# Altium integrated library Lattice CPLD ispMACH.IntLib: 663 symbols (part 28 of 48)
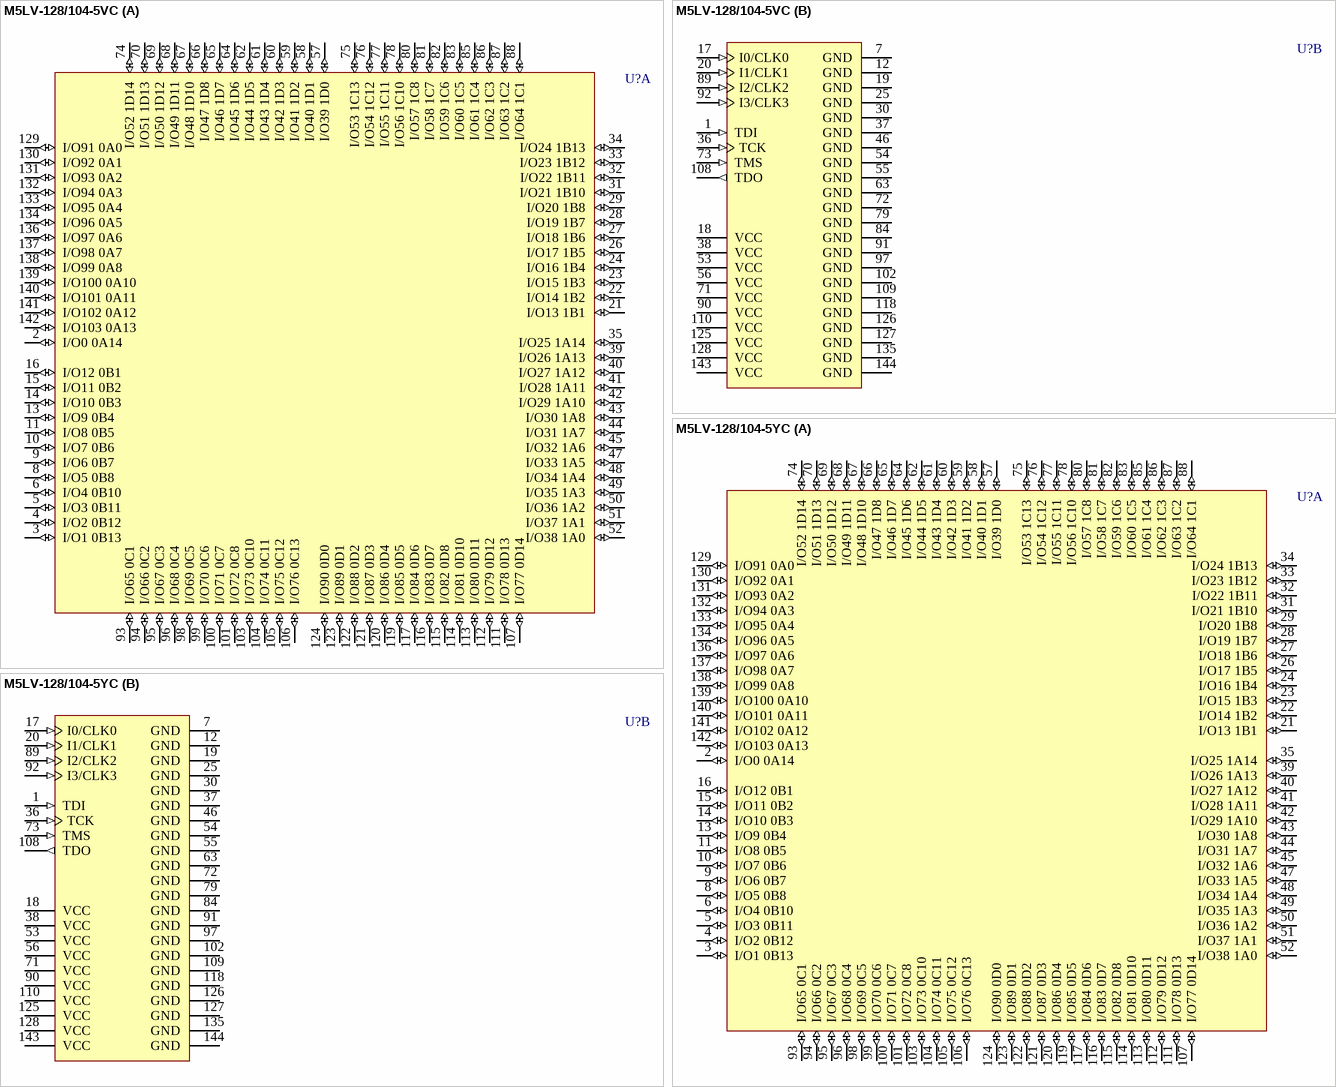
[diagram p333: symbols M5LV-128/104-5VC to M5LV-128/104-5YC]

## M5LV-128/104-5VC
designator U?
High-Density and High-I/O Complex PLD; Published: 23-Sep-2002; LatestRevisionDate: 13-Apr-2006; LatestRevisionNote: IPC-7351 Footprint Added.; DatasheetVersion: Sep-2000; PackageVersion: pkg_32, Aug-2005; PackageReference: TQFP144; Publisher: Altium Limited; PackageDescription: 144-Pin Thin Quad Flat Pack (TQFP144); Code_JEDEC: MS-026-BFB; ComponentLink1Description: Manufacturer Link; ComponentLink1URL: http://www.latticesemi.com/products/mature/index.cfm; ComponentLink2Description: Datasheet; ComponentLink2URL: http://www.latticesemi.com/lit/docs/datasheets/cpld/mach5.pdf
footprint TQFP144_N (Thin QFP, 144-Leads, Body 20x20mm, Pitch 0.5mm, IPC Medium Density)
footprint TQFP144_L (Thin QFP, 144-Leads, Body 20x20mm, Pitch 0.5mm, IPC High Density)
footprint TQFP144_M (Thin QFP, 144-Leads, Body 20x20mm, Pitch 0.5mm, IPC Low Density)
3D model M5LV-TQFP144 (144-Pin Thin Quad Flat Pack (TQFP144))
part A pins: 2 I/O0 0A14 (io), 3 I/O1 0B13 (io), 4 I/O2 0B12 (io), 5 I/O3 0B11 (io), 6 I/O4 0B10 (io), 8 I/O5 0B8 (io), 9 I/O6 0B7 (io), 10 I/O7 0B6 (io), 11 I/O8 0B5 (io), 13 I/O9 0B4 (io), 14 I/O10 0B3 (io), 15 I/O11 0B2 (io), 16 I/O12 0B1 (io), 21 I/O13 1B1 (io), 22 I/O14 1B2 (io), 23 I/O15 1B3 (io), 24 I/O16 1B4 (io), 26 I/O17 1B5 (io), 27 I/O18 1B6 (io), 28 I/O19 1B7 (io), 29 I/O20 1B8 (io), 31 I/O21 1B10 (io), 32 I/O22 1B11 (io), 33 I/O23 1B12 (io), 34 I/O24 1B13 (io), 35 I/O25 1A14 (io), 39 I/O26 1A13 (io), 40 I/O27 1A12 (io), 41 I/O28 1A11 (io), 42 I/O29 1A10 (io), 43 I/O30 1A8 (io), 44 I/O31 1A7 (io), 45 I/O32 1A6 (io), 47 I/O33 1A5 (io), 48 I/O34 1A4 (io), 49 I/O35 1A3 (io), 50 I/O36 1A2 (io), 51 I/O37 1A1 (io), 52 I/O38 1A0 (io), 57 I/O39 1D0 (io), 58 I/O40 1D1 (io), 59 I/O41 1D2 (io), 60 I/O42 1D3 (io), 61 I/O43 1D4 (io), 62 I/O44 1D5 (io), 64 I/O45 1D6 (io), 65 I/O46 1D7 (io), 66 I/O47 1D8 (io), 67 I/O48 1D10 (io), 68 I/O49 1D11 (io), 69 I/O50 1D12 (io), 70 I/O51 1D13 (io), 74 I/O52 1D14 (io), 75 I/O53 1C13 (io), 76 I/O54 1C12 (io), 77 I/O55 1C11 (io), 78 I/O56 1C10 (io), 80 I/O57 1C8 (io), 81 I/O58 1C7 (io), 82 I/O59 1C6 (io), 83 I/O60 1C5 (io), 85 I/O61 1C4 (io), 86 I/O62 1C3 (io), 87 I/O63 1C2 (io), 88 I/O64 1C1 (io), 93 I/O65 0C1 (io), 94 I/O66 0C2 (io), 95 I/O67 0C3 (io), 96 I/O68 0C4 (io), 98 I/O69 0C5 (io), 99 I/O70 0C6 (io), 100 I/O71 0C7 (io), 101 I/O72 0C8 (io), 103 I/O73 0C10 (io), 104 I/O74 0C11 (io), 105 I/O75 0C12 (io), 106 I/O76 0C13 (io), 107 I/O77 0D14 (io), 111 I/O78 0D13 (io), 112 I/O79 0D12 (io), 113 I/O80 0D11 (io), 114 I/O81 0D10 (io), 115 I/O82 0D8 (io), 116 I/O83 0D7 (io), 117 I/O84 0D6 (io), 119 I/O85 0D5 (io), 120 I/O86 0D4 (io), 121 I/O87 0D3 (io), 122 I/O88 0D2 (io), 123 I/O89 0D1 (io), 124 I/O90 0D0 (io), 129 I/O91 0A0 (io), 130 I/O92 0A1 (io), 131 I/O93 0A2 (io), 132 I/O94 0A3 (io), 133 I/O95 0A4 (io), 134 I/O96 0A5 (io), 136 I/O97 0A6 (io), 137 I/O98 0A7 (io), 138 I/O99 0A8 (io), 139 I/O100 0A10 (io), 140 I/O101 0A11 (io), 141 I/O102 0A12 (io), 142 I/O103 0A13 (io)
part B pins: 1 TDI (in), 7 GND (power), 12 GND (power), 17 I0/CLK0 (in), 18 VCC (power), 19 GND (power), 20 I1/CLK1 (in), 25 GND (power), 30 GND (power), 36 TCK (in), 37 GND (power), 38 VCC (power), 46 GND (power), 53 VCC (power), 54 GND (power), 55 GND (power), 56 VCC (power), 63 GND (power), 71 VCC (power), 72 GND (power), 73 TMS (in), 79 GND (power), 84 GND (power), 89 I2/CLK2 (in), 90 VCC (power), 91 GND (power), 92 I3/CLK3 (in), 97 GND (power), 102 GND (power), 108 TDO (out), 109 GND (power), 110 VCC (power), 118 GND (power), 125 VCC (power), 126 GND (power), 127 GND (power), 128 VCC (power), 135 GND (power), 143 VCC (power), 144 GND (power)

## M5LV-128/104-5YC
designator U?
High-Density and High-I/O Complex PLD; Published: 23-Sep-2002; LatestRevisionDate: 13-Apr-2006; LatestRevisionNote: IPC-7351 Footprint Added.; DatasheetVersion: Sep-2000; PackageVersion: pkg_32, Aug-2005; PackageReference: PQFP144; Publisher: Altium Limited; PackageDescription: 144-Pin Quad Flat Pack 0.65 mm Pitch; Code_IPC: QFP65P3120X3120-144; ComponentLink1Description: Manufacturer Link; ComponentLink1URL: http://www.latticesemi.com/products/mature/index.cfm; ComponentLink2Description: Datasheet; ComponentLink2URL: http://www.latticesemi.com/lit/docs/datasheets/cpld/mach5.pdf
footprint PQFP144_N (QFP, 144-Leads, Body 28 x 28mm, Pitch 0.65mm, IPC Medium Density)
footprint PQFP144_L (QFP, 144-Leads, Body 28 x 28mm, Pitch 0.65mm, IPC High Density)
footprint PQFP144_M (QFP, 144-Leads, Body 28 x 28mm, Pitch 0.65mm, IPC Low Density)
3D model M5LV-PQFP144 (144-Pin Quad Flat Pack 0.65 mm Pitch)
part A pins: 2 I/O0 0A14 (io), 3 I/O1 0B13 (io), 4 I/O2 0B12 (io), 5 I/O3 0B11 (io), 6 I/O4 0B10 (io), 8 I/O5 0B8 (io), 9 I/O6 0B7 (io), 10 I/O7 0B6 (io), 11 I/O8 0B5 (io), 13 I/O9 0B4 (io), 14 I/O10 0B3 (io), 15 I/O11 0B2 (io), 16 I/O12 0B1 (io), 21 I/O13 1B1 (io), 22 I/O14 1B2 (io), 23 I/O15 1B3 (io), 24 I/O16 1B4 (io), 26 I/O17 1B5 (io), 27 I/O18 1B6 (io), 28 I/O19 1B7 (io), 29 I/O20 1B8 (io), 31 I/O21 1B10 (io), 32 I/O22 1B11 (io), 33 I/O23 1B12 (io), 34 I/O24 1B13 (io), 35 I/O25 1A14 (io), 39 I/O26 1A13 (io), 40 I/O27 1A12 (io), 41 I/O28 1A11 (io), 42 I/O29 1A10 (io), 43 I/O30 1A8 (io), 44 I/O31 1A7 (io), 45 I/O32 1A6 (io), 47 I/O33 1A5 (io), 48 I/O34 1A4 (io), 49 I/O35 1A3 (io), 50 I/O36 1A2 (io), 51 I/O37 1A1 (io), 52 I/O38 1A0 (io), 57 I/O39 1D0 (io), 58 I/O40 1D1 (io), 59 I/O41 1D2 (io), 60 I/O42 1D3 (io), 61 I/O43 1D4 (io), 62 I/O44 1D5 (io), 64 I/O45 1D6 (io), 65 I/O46 1D7 (io), 66 I/O47 1D8 (io), 67 I/O48 1D10 (io), 68 I/O49 1D11 (io), 69 I/O50 1D12 (io), 70 I/O51 1D13 (io), 74 I/O52 1D14 (io), 75 I/O53 1C13 (io), 76 I/O54 1C12 (io), 77 I/O55 1C11 (io), 78 I/O56 1C10 (io), 80 I/O57 1C8 (io), 81 I/O58 1C7 (io), 82 I/O59 1C6 (io), 83 I/O60 1C5 (io), 85 I/O61 1C4 (io), 86 I/O62 1C3 (io), 87 I/O63 1C2 (io), 88 I/O64 1C1 (io), 93 I/O65 0C1 (io), 94 I/O66 0C2 (io), 95 I/O67 0C3 (io), 96 I/O68 0C4 (io), 98 I/O69 0C5 (io), 99 I/O70 0C6 (io), 100 I/O71 0C7 (io), 101 I/O72 0C8 (io), 103 I/O73 0C10 (io), 104 I/O74 0C11 (io), 105 I/O75 0C12 (io), 106 I/O76 0C13 (io), 107 I/O77 0D14 (io), 111 I/O78 0D13 (io), 112 I/O79 0D12 (io), 113 I/O80 0D11 (io), 114 I/O81 0D10 (io), 115 I/O82 0D8 (io), 116 I/O83 0D7 (io), 117 I/O84 0D6 (io), 119 I/O85 0D5 (io), 120 I/O86 0D4 (io), 121 I/O87 0D3 (io), 122 I/O88 0D2 (io), 123 I/O89 0D1 (io), 124 I/O90 0D0 (io), 129 I/O91 0A0 (io), 130 I/O92 0A1 (io), 131 I/O93 0A2 (io), 132 I/O94 0A3 (io), 133 I/O95 0A4 (io), 134 I/O96 0A5 (io), 136 I/O97 0A6 (io), 137 I/O98 0A7 (io), 138 I/O99 0A8 (io), 139 I/O100 0A10 (io), 140 I/O101 0A11 (io), 141 I/O102 0A12 (io), 142 I/O103 0A13 (io)
part B pins: 1 TDI (in), 7 GND (power), 12 GND (power), 17 I0/CLK0 (in), 18 VCC (power), 19 GND (power), 20 I1/CLK1 (in), 25 GND (power), 30 GND (power), 36 TCK (in), 37 GND (power), 38 VCC (power), 46 GND (power), 53 VCC (power), 54 GND (power), 55 GND (power), 56 VCC (power), 63 GND (power), 71 VCC (power), 72 GND (power), 73 TMS (in), 79 GND (power), 84 GND (power), 89 I2/CLK2 (in), 90 VCC (power), 91 GND (power), 92 I3/CLK3 (in), 97 GND (power), 102 GND (power), 108 TDO (out), 109 GND (power), 110 VCC (power), 118 GND (power), 125 VCC (power), 126 GND (power), 127 GND (power), 128 VCC (power), 135 GND (power), 143 VCC (power), 144 GND (power)

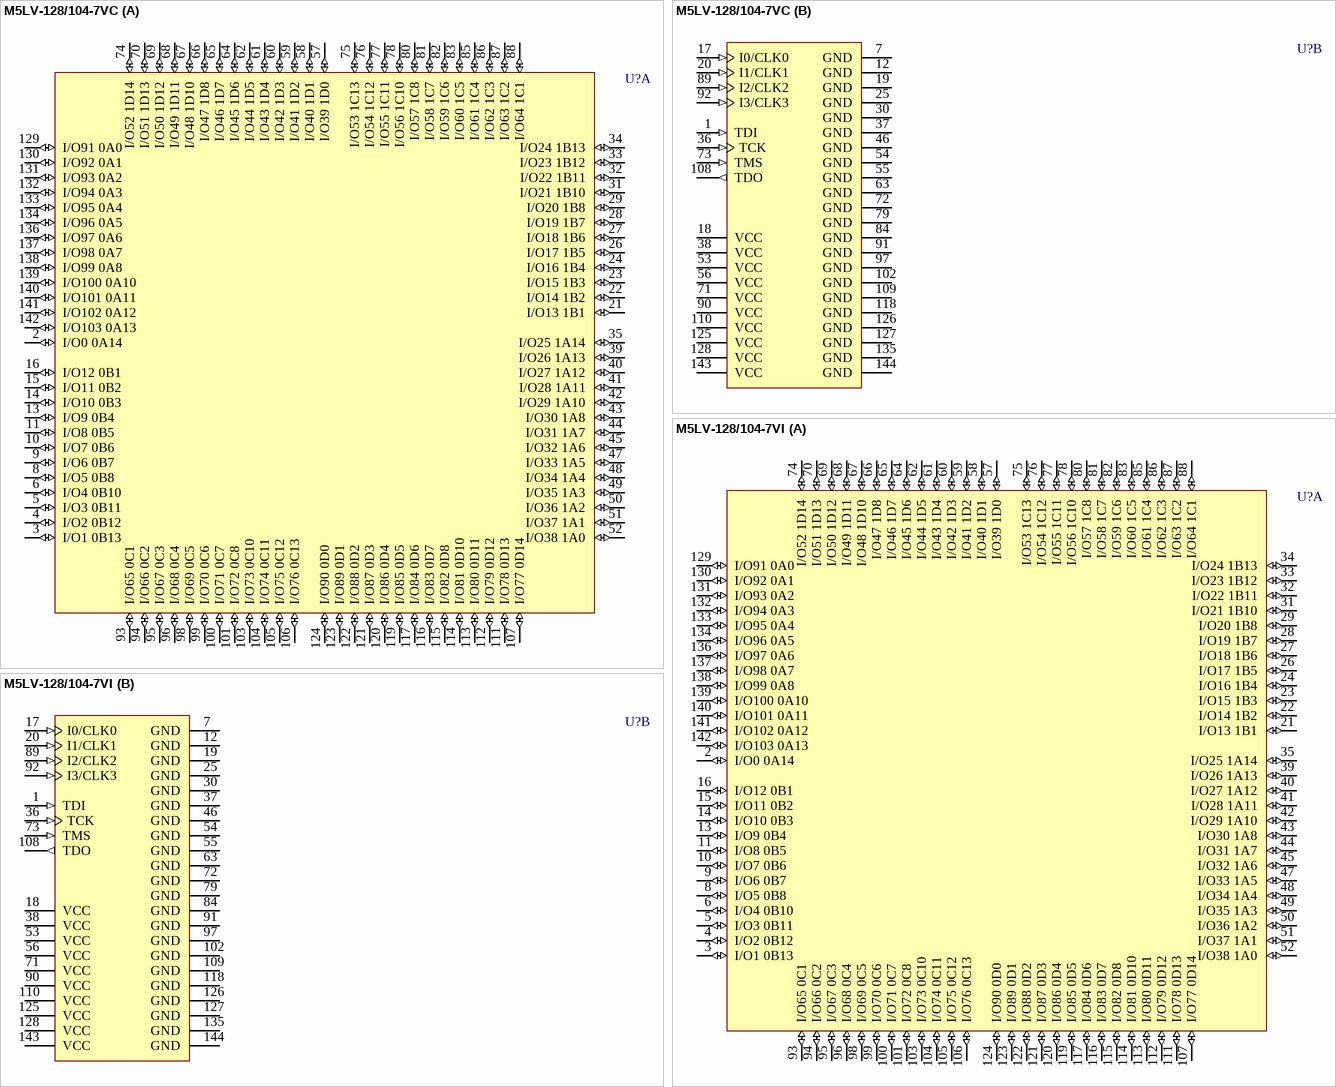
[diagram p162: symbols M5LV-128/104-7VC to M5LV-128/104-7VI]

## M5LV-128/104-7VC
designator U?
High-Density and High-I/O Complex PLD; Published: 23-Sep-2002; LatestRevisionDate: 13-Apr-2006; LatestRevisionNote: IPC-7351 Footprint Added.; DatasheetVersion: Sep-2000; PackageVersion: pkg_32, Aug-2005; PackageReference: TQFP144; Publisher: Altium Limited; PackageDescription: 144-Pin Thin Quad Flat Pack (TQFP144); Code_JEDEC: MS-026-BFB; ComponentLink1Description: Manufacturer Link; ComponentLink1URL: http://www.latticesemi.com/products/mature/index.cfm; ComponentLink2Description: Datasheet; ComponentLink2URL: http://www.latticesemi.com/lit/docs/datasheets/cpld/mach5.pdf
footprint TQFP144_N (Thin QFP, 144-Leads, Body 20x20mm, Pitch 0.5mm, IPC Medium Density)
footprint TQFP144_L (Thin QFP, 144-Leads, Body 20x20mm, Pitch 0.5mm, IPC High Density)
footprint TQFP144_M (Thin QFP, 144-Leads, Body 20x20mm, Pitch 0.5mm, IPC Low Density)
3D model M5LV-TQFP144 (144-Pin Thin Quad Flat Pack (TQFP144))
part A pins: 2 I/O0 0A14 (io), 3 I/O1 0B13 (io), 4 I/O2 0B12 (io), 5 I/O3 0B11 (io), 6 I/O4 0B10 (io), 8 I/O5 0B8 (io), 9 I/O6 0B7 (io), 10 I/O7 0B6 (io), 11 I/O8 0B5 (io), 13 I/O9 0B4 (io), 14 I/O10 0B3 (io), 15 I/O11 0B2 (io), 16 I/O12 0B1 (io), 21 I/O13 1B1 (io), 22 I/O14 1B2 (io), 23 I/O15 1B3 (io), 24 I/O16 1B4 (io), 26 I/O17 1B5 (io), 27 I/O18 1B6 (io), 28 I/O19 1B7 (io), 29 I/O20 1B8 (io), 31 I/O21 1B10 (io), 32 I/O22 1B11 (io), 33 I/O23 1B12 (io), 34 I/O24 1B13 (io), 35 I/O25 1A14 (io), 39 I/O26 1A13 (io), 40 I/O27 1A12 (io), 41 I/O28 1A11 (io), 42 I/O29 1A10 (io), 43 I/O30 1A8 (io), 44 I/O31 1A7 (io), 45 I/O32 1A6 (io), 47 I/O33 1A5 (io), 48 I/O34 1A4 (io), 49 I/O35 1A3 (io), 50 I/O36 1A2 (io), 51 I/O37 1A1 (io), 52 I/O38 1A0 (io), 57 I/O39 1D0 (io), 58 I/O40 1D1 (io), 59 I/O41 1D2 (io), 60 I/O42 1D3 (io), 61 I/O43 1D4 (io), 62 I/O44 1D5 (io), 64 I/O45 1D6 (io), 65 I/O46 1D7 (io), 66 I/O47 1D8 (io), 67 I/O48 1D10 (io), 68 I/O49 1D11 (io), 69 I/O50 1D12 (io), 70 I/O51 1D13 (io), 74 I/O52 1D14 (io), 75 I/O53 1C13 (io), 76 I/O54 1C12 (io), 77 I/O55 1C11 (io), 78 I/O56 1C10 (io), 80 I/O57 1C8 (io), 81 I/O58 1C7 (io), 82 I/O59 1C6 (io), 83 I/O60 1C5 (io), 85 I/O61 1C4 (io), 86 I/O62 1C3 (io), 87 I/O63 1C2 (io), 88 I/O64 1C1 (io), 93 I/O65 0C1 (io), 94 I/O66 0C2 (io), 95 I/O67 0C3 (io), 96 I/O68 0C4 (io), 98 I/O69 0C5 (io), 99 I/O70 0C6 (io), 100 I/O71 0C7 (io), 101 I/O72 0C8 (io), 103 I/O73 0C10 (io), 104 I/O74 0C11 (io), 105 I/O75 0C12 (io), 106 I/O76 0C13 (io), 107 I/O77 0D14 (io), 111 I/O78 0D13 (io), 112 I/O79 0D12 (io), 113 I/O80 0D11 (io), 114 I/O81 0D10 (io), 115 I/O82 0D8 (io), 116 I/O83 0D7 (io), 117 I/O84 0D6 (io), 119 I/O85 0D5 (io), 120 I/O86 0D4 (io), 121 I/O87 0D3 (io), 122 I/O88 0D2 (io), 123 I/O89 0D1 (io), 124 I/O90 0D0 (io), 129 I/O91 0A0 (io), 130 I/O92 0A1 (io), 131 I/O93 0A2 (io), 132 I/O94 0A3 (io), 133 I/O95 0A4 (io), 134 I/O96 0A5 (io), 136 I/O97 0A6 (io), 137 I/O98 0A7 (io), 138 I/O99 0A8 (io), 139 I/O100 0A10 (io), 140 I/O101 0A11 (io), 141 I/O102 0A12 (io), 142 I/O103 0A13 (io)
part B pins: 1 TDI (in), 7 GND (power), 12 GND (power), 17 I0/CLK0 (in), 18 VCC (power), 19 GND (power), 20 I1/CLK1 (in), 25 GND (power), 30 GND (power), 36 TCK (in), 37 GND (power), 38 VCC (power), 46 GND (power), 53 VCC (power), 54 GND (power), 55 GND (power), 56 VCC (power), 63 GND (power), 71 VCC (power), 72 GND (power), 73 TMS (in), 79 GND (power), 84 GND (power), 89 I2/CLK2 (in), 90 VCC (power), 91 GND (power), 92 I3/CLK3 (in), 97 GND (power), 102 GND (power), 108 TDO (out), 109 GND (power), 110 VCC (power), 118 GND (power), 125 VCC (power), 126 GND (power), 127 GND (power), 128 VCC (power), 135 GND (power), 143 VCC (power), 144 GND (power)

## M5LV-128/104-7VI
designator U?
High-Density and High-I/O Complex PLD; Published: 23-Sep-2002; LatestRevisionDate: 13-Apr-2006; LatestRevisionNote: IPC-7351 Footprint Added.; DatasheetVersion: Sep-2000; PackageVersion: pkg_32, Aug-2005; PackageReference: TQFP144; Publisher: Altium Limited; PackageDescription: 144-Pin Thin Quad Flat Pack (TQFP144); Code_JEDEC: MS-026-BFB; ComponentLink1Description: Manufacturer Link; ComponentLink1URL: http://www.latticesemi.com/products/mature/index.cfm; ComponentLink2Description: Datasheet; ComponentLink2URL: http://www.latticesemi.com/lit/docs/datasheets/cpld/mach5.pdf
footprint TQFP144_N (Thin QFP, 144-Leads, Body 20x20mm, Pitch 0.5mm, IPC Medium Density)
footprint TQFP144_L (Thin QFP, 144-Leads, Body 20x20mm, Pitch 0.5mm, IPC High Density)
footprint TQFP144_M (Thin QFP, 144-Leads, Body 20x20mm, Pitch 0.5mm, IPC Low Density)
3D model M5LV-TQFP144 (144-Pin Thin Quad Flat Pack (TQFP144))
part A pins: 2 I/O0 0A14 (io), 3 I/O1 0B13 (io), 4 I/O2 0B12 (io), 5 I/O3 0B11 (io), 6 I/O4 0B10 (io), 8 I/O5 0B8 (io), 9 I/O6 0B7 (io), 10 I/O7 0B6 (io), 11 I/O8 0B5 (io), 13 I/O9 0B4 (io), 14 I/O10 0B3 (io), 15 I/O11 0B2 (io), 16 I/O12 0B1 (io), 21 I/O13 1B1 (io), 22 I/O14 1B2 (io), 23 I/O15 1B3 (io), 24 I/O16 1B4 (io), 26 I/O17 1B5 (io), 27 I/O18 1B6 (io), 28 I/O19 1B7 (io), 29 I/O20 1B8 (io), 31 I/O21 1B10 (io), 32 I/O22 1B11 (io), 33 I/O23 1B12 (io), 34 I/O24 1B13 (io), 35 I/O25 1A14 (io), 39 I/O26 1A13 (io), 40 I/O27 1A12 (io), 41 I/O28 1A11 (io), 42 I/O29 1A10 (io), 43 I/O30 1A8 (io), 44 I/O31 1A7 (io), 45 I/O32 1A6 (io), 47 I/O33 1A5 (io), 48 I/O34 1A4 (io), 49 I/O35 1A3 (io), 50 I/O36 1A2 (io), 51 I/O37 1A1 (io), 52 I/O38 1A0 (io), 57 I/O39 1D0 (io), 58 I/O40 1D1 (io), 59 I/O41 1D2 (io), 60 I/O42 1D3 (io), 61 I/O43 1D4 (io), 62 I/O44 1D5 (io), 64 I/O45 1D6 (io), 65 I/O46 1D7 (io), 66 I/O47 1D8 (io), 67 I/O48 1D10 (io), 68 I/O49 1D11 (io), 69 I/O50 1D12 (io), 70 I/O51 1D13 (io), 74 I/O52 1D14 (io), 75 I/O53 1C13 (io), 76 I/O54 1C12 (io), 77 I/O55 1C11 (io), 78 I/O56 1C10 (io), 80 I/O57 1C8 (io), 81 I/O58 1C7 (io), 82 I/O59 1C6 (io), 83 I/O60 1C5 (io), 85 I/O61 1C4 (io), 86 I/O62 1C3 (io), 87 I/O63 1C2 (io), 88 I/O64 1C1 (io), 93 I/O65 0C1 (io), 94 I/O66 0C2 (io), 95 I/O67 0C3 (io), 96 I/O68 0C4 (io), 98 I/O69 0C5 (io), 99 I/O70 0C6 (io), 100 I/O71 0C7 (io), 101 I/O72 0C8 (io), 103 I/O73 0C10 (io), 104 I/O74 0C11 (io), 105 I/O75 0C12 (io), 106 I/O76 0C13 (io), 107 I/O77 0D14 (io), 111 I/O78 0D13 (io), 112 I/O79 0D12 (io), 113 I/O80 0D11 (io), 114 I/O81 0D10 (io), 115 I/O82 0D8 (io), 116 I/O83 0D7 (io), 117 I/O84 0D6 (io), 119 I/O85 0D5 (io), 120 I/O86 0D4 (io), 121 I/O87 0D3 (io), 122 I/O88 0D2 (io), 123 I/O89 0D1 (io), 124 I/O90 0D0 (io), 129 I/O91 0A0 (io), 130 I/O92 0A1 (io), 131 I/O93 0A2 (io), 132 I/O94 0A3 (io), 133 I/O95 0A4 (io), 134 I/O96 0A5 (io), 136 I/O97 0A6 (io), 137 I/O98 0A7 (io), 138 I/O99 0A8 (io), 139 I/O100 0A10 (io), 140 I/O101 0A11 (io), 141 I/O102 0A12 (io), 142 I/O103 0A13 (io)
part B pins: 1 TDI (in), 7 GND (power), 12 GND (power), 17 I0/CLK0 (in), 18 VCC (power), 19 GND (power), 20 I1/CLK1 (in), 25 GND (power), 30 GND (power), 36 TCK (in), 37 GND (power), 38 VCC (power), 46 GND (power), 53 VCC (power), 54 GND (power), 55 GND (power), 56 VCC (power), 63 GND (power), 71 VCC (power), 72 GND (power), 73 TMS (in), 79 GND (power), 84 GND (power), 89 I2/CLK2 (in), 90 VCC (power), 91 GND (power), 92 I3/CLK3 (in), 97 GND (power), 102 GND (power), 108 TDO (out), 109 GND (power), 110 VCC (power), 118 GND (power), 125 VCC (power), 126 GND (power), 127 GND (power), 128 VCC (power), 135 GND (power), 143 VCC (power), 144 GND (power)

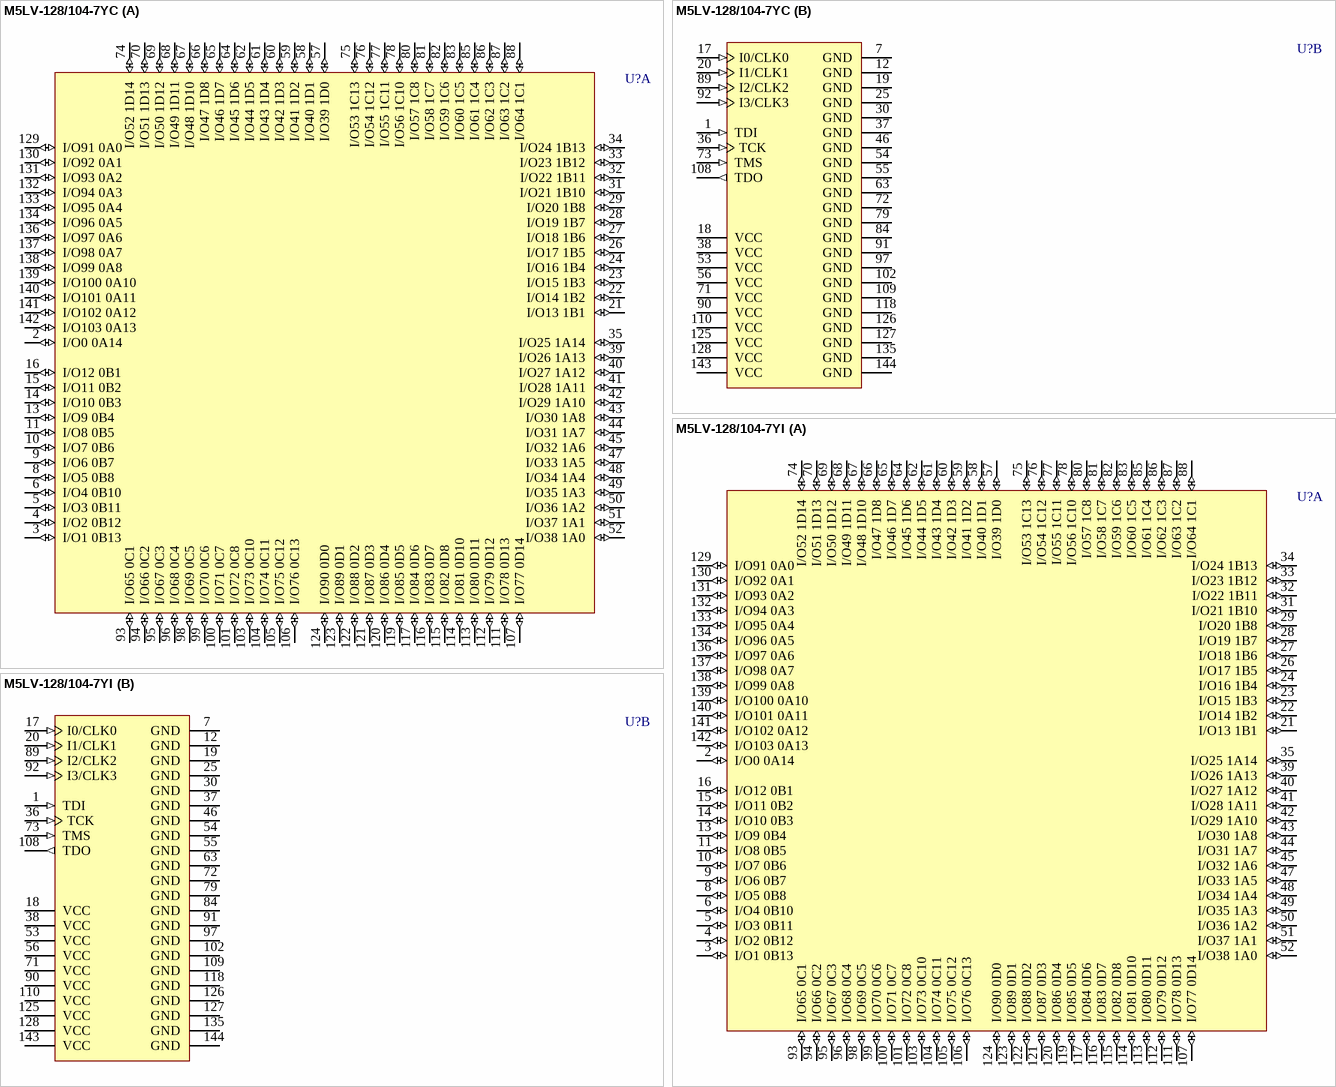
[diagram p163: symbols M5LV-128/104-7YC to M5LV-128/104-7YI]

## M5LV-128/104-7YC
designator U?
High-Density and High-I/O Complex PLD; Published: 23-Sep-2002; LatestRevisionDate: 13-Apr-2006; LatestRevisionNote: IPC-7351 Footprint Added.; DatasheetVersion: Sep-2000; PackageVersion: pkg_32, Aug-2005; PackageReference: PQFP144; Publisher: Altium Limited; PackageDescription: 144-Pin Quad Flat Pack 0.65 mm Pitch; Code_IPC: QFP65P3120X3120-144; ComponentLink1Description: Manufacturer Link; ComponentLink1URL: http://www.latticesemi.com/products/mature/index.cfm; ComponentLink2Description: Datasheet; ComponentLink2URL: http://www.latticesemi.com/lit/docs/datasheets/cpld/mach5.pdf
footprint PQFP144_N (QFP, 144-Leads, Body 28 x 28mm, Pitch 0.65mm, IPC Medium Density)
footprint PQFP144_L (QFP, 144-Leads, Body 28 x 28mm, Pitch 0.65mm, IPC High Density)
footprint PQFP144_M (QFP, 144-Leads, Body 28 x 28mm, Pitch 0.65mm, IPC Low Density)
3D model M5LV-PQFP144 (144-Pin Quad Flat Pack 0.65 mm Pitch)
part A pins: 2 I/O0 0A14 (io), 3 I/O1 0B13 (io), 4 I/O2 0B12 (io), 5 I/O3 0B11 (io), 6 I/O4 0B10 (io), 8 I/O5 0B8 (io), 9 I/O6 0B7 (io), 10 I/O7 0B6 (io), 11 I/O8 0B5 (io), 13 I/O9 0B4 (io), 14 I/O10 0B3 (io), 15 I/O11 0B2 (io), 16 I/O12 0B1 (io), 21 I/O13 1B1 (io), 22 I/O14 1B2 (io), 23 I/O15 1B3 (io), 24 I/O16 1B4 (io), 26 I/O17 1B5 (io), 27 I/O18 1B6 (io), 28 I/O19 1B7 (io), 29 I/O20 1B8 (io), 31 I/O21 1B10 (io), 32 I/O22 1B11 (io), 33 I/O23 1B12 (io), 34 I/O24 1B13 (io), 35 I/O25 1A14 (io), 39 I/O26 1A13 (io), 40 I/O27 1A12 (io), 41 I/O28 1A11 (io), 42 I/O29 1A10 (io), 43 I/O30 1A8 (io), 44 I/O31 1A7 (io), 45 I/O32 1A6 (io), 47 I/O33 1A5 (io), 48 I/O34 1A4 (io), 49 I/O35 1A3 (io), 50 I/O36 1A2 (io), 51 I/O37 1A1 (io), 52 I/O38 1A0 (io), 57 I/O39 1D0 (io), 58 I/O40 1D1 (io), 59 I/O41 1D2 (io), 60 I/O42 1D3 (io), 61 I/O43 1D4 (io), 62 I/O44 1D5 (io), 64 I/O45 1D6 (io), 65 I/O46 1D7 (io), 66 I/O47 1D8 (io), 67 I/O48 1D10 (io), 68 I/O49 1D11 (io), 69 I/O50 1D12 (io), 70 I/O51 1D13 (io), 74 I/O52 1D14 (io), 75 I/O53 1C13 (io), 76 I/O54 1C12 (io), 77 I/O55 1C11 (io), 78 I/O56 1C10 (io), 80 I/O57 1C8 (io), 81 I/O58 1C7 (io), 82 I/O59 1C6 (io), 83 I/O60 1C5 (io), 85 I/O61 1C4 (io), 86 I/O62 1C3 (io), 87 I/O63 1C2 (io), 88 I/O64 1C1 (io), 93 I/O65 0C1 (io), 94 I/O66 0C2 (io), 95 I/O67 0C3 (io), 96 I/O68 0C4 (io), 98 I/O69 0C5 (io), 99 I/O70 0C6 (io), 100 I/O71 0C7 (io), 101 I/O72 0C8 (io), 103 I/O73 0C10 (io), 104 I/O74 0C11 (io), 105 I/O75 0C12 (io), 106 I/O76 0C13 (io), 107 I/O77 0D14 (io), 111 I/O78 0D13 (io), 112 I/O79 0D12 (io), 113 I/O80 0D11 (io), 114 I/O81 0D10 (io), 115 I/O82 0D8 (io), 116 I/O83 0D7 (io), 117 I/O84 0D6 (io), 119 I/O85 0D5 (io), 120 I/O86 0D4 (io), 121 I/O87 0D3 (io), 122 I/O88 0D2 (io), 123 I/O89 0D1 (io), 124 I/O90 0D0 (io), 129 I/O91 0A0 (io), 130 I/O92 0A1 (io), 131 I/O93 0A2 (io), 132 I/O94 0A3 (io), 133 I/O95 0A4 (io), 134 I/O96 0A5 (io), 136 I/O97 0A6 (io), 137 I/O98 0A7 (io), 138 I/O99 0A8 (io), 139 I/O100 0A10 (io), 140 I/O101 0A11 (io), 141 I/O102 0A12 (io), 142 I/O103 0A13 (io)
part B pins: 1 TDI (in), 7 GND (power), 12 GND (power), 17 I0/CLK0 (in), 18 VCC (power), 19 GND (power), 20 I1/CLK1 (in), 25 GND (power), 30 GND (power), 36 TCK (in), 37 GND (power), 38 VCC (power), 46 GND (power), 53 VCC (power), 54 GND (power), 55 GND (power), 56 VCC (power), 63 GND (power), 71 VCC (power), 72 GND (power), 73 TMS (in), 79 GND (power), 84 GND (power), 89 I2/CLK2 (in), 90 VCC (power), 91 GND (power), 92 I3/CLK3 (in), 97 GND (power), 102 GND (power), 108 TDO (out), 109 GND (power), 110 VCC (power), 118 GND (power), 125 VCC (power), 126 GND (power), 127 GND (power), 128 VCC (power), 135 GND (power), 143 VCC (power), 144 GND (power)

## M5LV-128/104-7YI
designator U?
High-Density and High-I/O Complex PLD; Published: 23-Sep-2002; LatestRevisionDate: 13-Apr-2006; LatestRevisionNote: IPC-7351 Footprint Added.; DatasheetVersion: Sep-2000; PackageVersion: pkg_32, Aug-2005; PackageReference: PQFP144; Publisher: Altium Limited; PackageDescription: 144-Pin Quad Flat Pack 0.65 mm Pitch; Code_IPC: QFP65P3120X3120-144; ComponentLink1Description: Manufacturer Link; ComponentLink1URL: http://www.latticesemi.com/products/mature/index.cfm; ComponentLink2Description: Datasheet; ComponentLink2URL: http://www.latticesemi.com/lit/docs/datasheets/cpld/mach5.pdf
footprint PQFP144_N (QFP, 144-Leads, Body 28 x 28mm, Pitch 0.65mm, IPC Medium Density)
footprint PQFP144_L (QFP, 144-Leads, Body 28 x 28mm, Pitch 0.65mm, IPC High Density)
footprint PQFP144_M (QFP, 144-Leads, Body 28 x 28mm, Pitch 0.65mm, IPC Low Density)
3D model M5LV-PQFP144 (144-Pin Quad Flat Pack 0.65 mm Pitch)
part A pins: 2 I/O0 0A14 (io), 3 I/O1 0B13 (io), 4 I/O2 0B12 (io), 5 I/O3 0B11 (io), 6 I/O4 0B10 (io), 8 I/O5 0B8 (io), 9 I/O6 0B7 (io), 10 I/O7 0B6 (io), 11 I/O8 0B5 (io), 13 I/O9 0B4 (io), 14 I/O10 0B3 (io), 15 I/O11 0B2 (io), 16 I/O12 0B1 (io), 21 I/O13 1B1 (io), 22 I/O14 1B2 (io), 23 I/O15 1B3 (io), 24 I/O16 1B4 (io), 26 I/O17 1B5 (io), 27 I/O18 1B6 (io), 28 I/O19 1B7 (io), 29 I/O20 1B8 (io), 31 I/O21 1B10 (io), 32 I/O22 1B11 (io), 33 I/O23 1B12 (io), 34 I/O24 1B13 (io), 35 I/O25 1A14 (io), 39 I/O26 1A13 (io), 40 I/O27 1A12 (io), 41 I/O28 1A11 (io), 42 I/O29 1A10 (io), 43 I/O30 1A8 (io), 44 I/O31 1A7 (io), 45 I/O32 1A6 (io), 47 I/O33 1A5 (io), 48 I/O34 1A4 (io), 49 I/O35 1A3 (io), 50 I/O36 1A2 (io), 51 I/O37 1A1 (io), 52 I/O38 1A0 (io), 57 I/O39 1D0 (io), 58 I/O40 1D1 (io), 59 I/O41 1D2 (io), 60 I/O42 1D3 (io), 61 I/O43 1D4 (io), 62 I/O44 1D5 (io), 64 I/O45 1D6 (io), 65 I/O46 1D7 (io), 66 I/O47 1D8 (io), 67 I/O48 1D10 (io), 68 I/O49 1D11 (io), 69 I/O50 1D12 (io), 70 I/O51 1D13 (io), 74 I/O52 1D14 (io), 75 I/O53 1C13 (io), 76 I/O54 1C12 (io), 77 I/O55 1C11 (io), 78 I/O56 1C10 (io), 80 I/O57 1C8 (io), 81 I/O58 1C7 (io), 82 I/O59 1C6 (io), 83 I/O60 1C5 (io), 85 I/O61 1C4 (io), 86 I/O62 1C3 (io), 87 I/O63 1C2 (io), 88 I/O64 1C1 (io), 93 I/O65 0C1 (io), 94 I/O66 0C2 (io), 95 I/O67 0C3 (io), 96 I/O68 0C4 (io), 98 I/O69 0C5 (io), 99 I/O70 0C6 (io), 100 I/O71 0C7 (io), 101 I/O72 0C8 (io), 103 I/O73 0C10 (io), 104 I/O74 0C11 (io), 105 I/O75 0C12 (io), 106 I/O76 0C13 (io), 107 I/O77 0D14 (io), 111 I/O78 0D13 (io), 112 I/O79 0D12 (io), 113 I/O80 0D11 (io), 114 I/O81 0D10 (io), 115 I/O82 0D8 (io), 116 I/O83 0D7 (io), 117 I/O84 0D6 (io), 119 I/O85 0D5 (io), 120 I/O86 0D4 (io), 121 I/O87 0D3 (io), 122 I/O88 0D2 (io), 123 I/O89 0D1 (io), 124 I/O90 0D0 (io), 129 I/O91 0A0 (io), 130 I/O92 0A1 (io), 131 I/O93 0A2 (io), 132 I/O94 0A3 (io), 133 I/O95 0A4 (io), 134 I/O96 0A5 (io), 136 I/O97 0A6 (io), 137 I/O98 0A7 (io), 138 I/O99 0A8 (io), 139 I/O100 0A10 (io), 140 I/O101 0A11 (io), 141 I/O102 0A12 (io), 142 I/O103 0A13 (io)
part B pins: 1 TDI (in), 7 GND (power), 12 GND (power), 17 I0/CLK0 (in), 18 VCC (power), 19 GND (power), 20 I1/CLK1 (in), 25 GND (power), 30 GND (power), 36 TCK (in), 37 GND (power), 38 VCC (power), 46 GND (power), 53 VCC (power), 54 GND (power), 55 GND (power), 56 VCC (power), 63 GND (power), 71 VCC (power), 72 GND (power), 73 TMS (in), 79 GND (power), 84 GND (power), 89 I2/CLK2 (in), 90 VCC (power), 91 GND (power), 92 I3/CLK3 (in), 97 GND (power), 102 GND (power), 108 TDO (out), 109 GND (power), 110 VCC (power), 118 GND (power), 125 VCC (power), 126 GND (power), 127 GND (power), 128 VCC (power), 135 GND (power), 143 VCC (power), 144 GND (power)

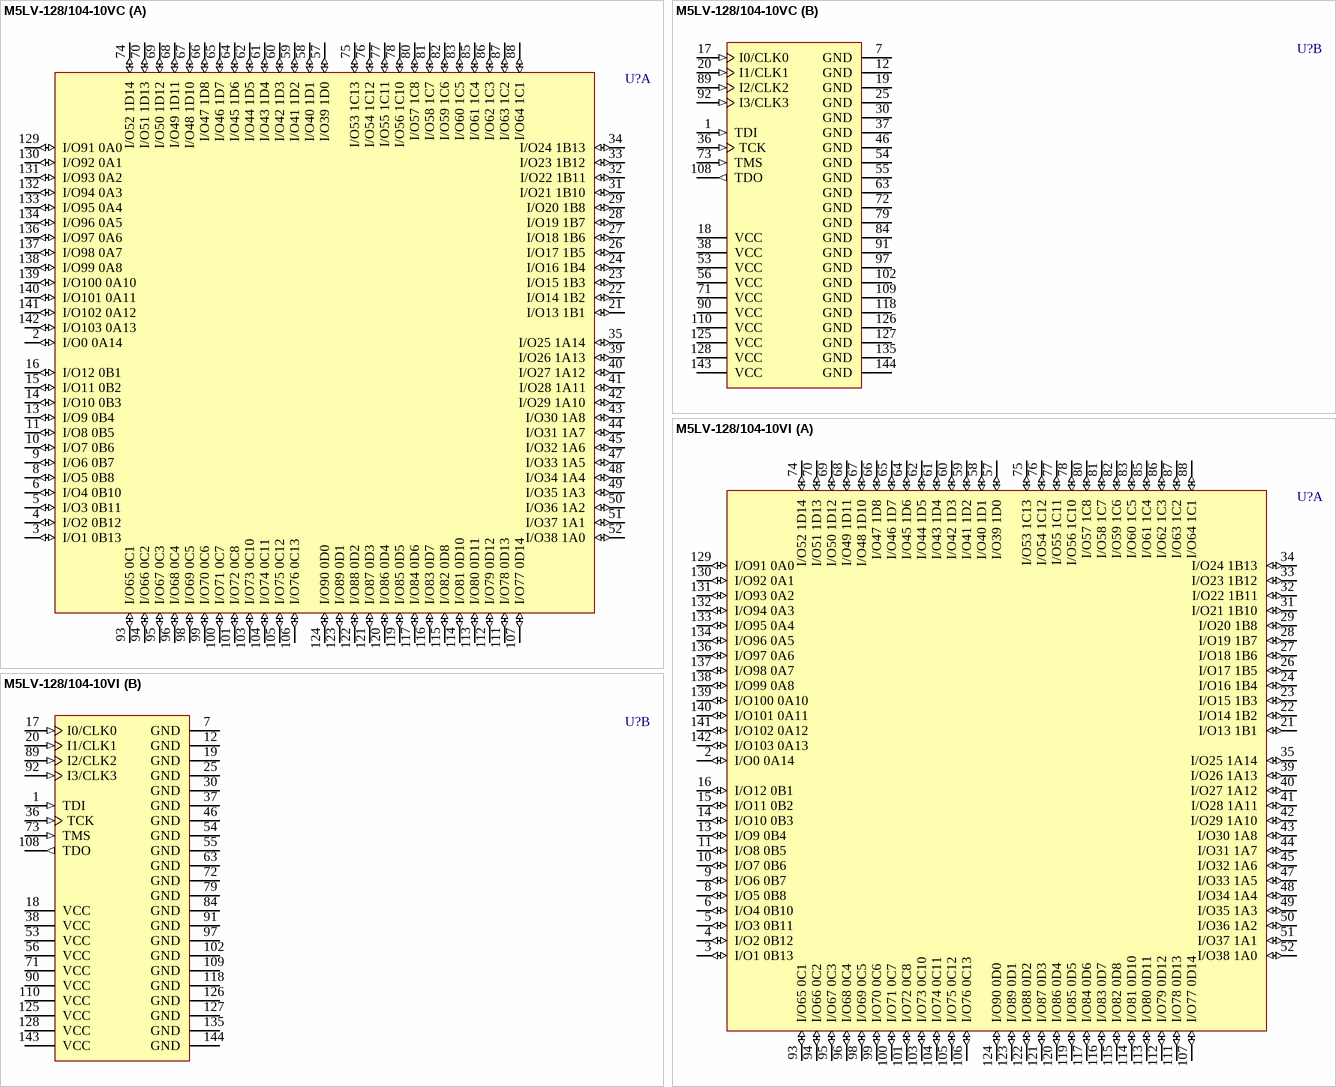
[diagram p164: symbols M5LV-128/104-10VC to M5LV-128/104-10VI]

## M5LV-128/104-10VC
designator U?
High-Density and High-I/O Complex PLD; Published: 23-Sep-2002; LatestRevisionDate: 13-Apr-2006; LatestRevisionNote: IPC-7351 Footprint Added.; DatasheetVersion: Sep-2000; PackageVersion: pkg_32, Aug-2005; PackageReference: TQFP144; Publisher: Altium Limited; PackageDescription: 144-Pin Thin Quad Flat Pack (TQFP144); Code_JEDEC: MS-026-BFB; ComponentLink1Description: Manufacturer Link; ComponentLink1URL: http://www.latticesemi.com/products/mature/index.cfm; ComponentLink2Description: Datasheet; ComponentLink2URL: http://www.latticesemi.com/lit/docs/datasheets/cpld/mach5.pdf
footprint TQFP144_N (Thin QFP, 144-Leads, Body 20x20mm, Pitch 0.5mm, IPC Medium Density)
footprint TQFP144_L (Thin QFP, 144-Leads, Body 20x20mm, Pitch 0.5mm, IPC High Density)
footprint TQFP144_M (Thin QFP, 144-Leads, Body 20x20mm, Pitch 0.5mm, IPC Low Density)
3D model M5LV-TQFP144 (144-Pin Thin Quad Flat Pack (TQFP144))
part A pins: 2 I/O0 0A14 (io), 3 I/O1 0B13 (io), 4 I/O2 0B12 (io), 5 I/O3 0B11 (io), 6 I/O4 0B10 (io), 8 I/O5 0B8 (io), 9 I/O6 0B7 (io), 10 I/O7 0B6 (io), 11 I/O8 0B5 (io), 13 I/O9 0B4 (io), 14 I/O10 0B3 (io), 15 I/O11 0B2 (io), 16 I/O12 0B1 (io), 21 I/O13 1B1 (io), 22 I/O14 1B2 (io), 23 I/O15 1B3 (io), 24 I/O16 1B4 (io), 26 I/O17 1B5 (io), 27 I/O18 1B6 (io), 28 I/O19 1B7 (io), 29 I/O20 1B8 (io), 31 I/O21 1B10 (io), 32 I/O22 1B11 (io), 33 I/O23 1B12 (io), 34 I/O24 1B13 (io), 35 I/O25 1A14 (io), 39 I/O26 1A13 (io), 40 I/O27 1A12 (io), 41 I/O28 1A11 (io), 42 I/O29 1A10 (io), 43 I/O30 1A8 (io), 44 I/O31 1A7 (io), 45 I/O32 1A6 (io), 47 I/O33 1A5 (io), 48 I/O34 1A4 (io), 49 I/O35 1A3 (io), 50 I/O36 1A2 (io), 51 I/O37 1A1 (io), 52 I/O38 1A0 (io), 57 I/O39 1D0 (io), 58 I/O40 1D1 (io), 59 I/O41 1D2 (io), 60 I/O42 1D3 (io), 61 I/O43 1D4 (io), 62 I/O44 1D5 (io), 64 I/O45 1D6 (io), 65 I/O46 1D7 (io), 66 I/O47 1D8 (io), 67 I/O48 1D10 (io), 68 I/O49 1D11 (io), 69 I/O50 1D12 (io), 70 I/O51 1D13 (io), 74 I/O52 1D14 (io), 75 I/O53 1C13 (io), 76 I/O54 1C12 (io), 77 I/O55 1C11 (io), 78 I/O56 1C10 (io), 80 I/O57 1C8 (io), 81 I/O58 1C7 (io), 82 I/O59 1C6 (io), 83 I/O60 1C5 (io), 85 I/O61 1C4 (io), 86 I/O62 1C3 (io), 87 I/O63 1C2 (io), 88 I/O64 1C1 (io), 93 I/O65 0C1 (io), 94 I/O66 0C2 (io), 95 I/O67 0C3 (io), 96 I/O68 0C4 (io), 98 I/O69 0C5 (io), 99 I/O70 0C6 (io), 100 I/O71 0C7 (io), 101 I/O72 0C8 (io), 103 I/O73 0C10 (io), 104 I/O74 0C11 (io), 105 I/O75 0C12 (io), 106 I/O76 0C13 (io), 107 I/O77 0D14 (io), 111 I/O78 0D13 (io), 112 I/O79 0D12 (io), 113 I/O80 0D11 (io), 114 I/O81 0D10 (io), 115 I/O82 0D8 (io), 116 I/O83 0D7 (io), 117 I/O84 0D6 (io), 119 I/O85 0D5 (io), 120 I/O86 0D4 (io), 121 I/O87 0D3 (io), 122 I/O88 0D2 (io), 123 I/O89 0D1 (io), 124 I/O90 0D0 (io), 129 I/O91 0A0 (io), 130 I/O92 0A1 (io), 131 I/O93 0A2 (io), 132 I/O94 0A3 (io), 133 I/O95 0A4 (io), 134 I/O96 0A5 (io), 136 I/O97 0A6 (io), 137 I/O98 0A7 (io), 138 I/O99 0A8 (io), 139 I/O100 0A10 (io), 140 I/O101 0A11 (io), 141 I/O102 0A12 (io), 142 I/O103 0A13 (io)
part B pins: 1 TDI (in), 7 GND (power), 12 GND (power), 17 I0/CLK0 (in), 18 VCC (power), 19 GND (power), 20 I1/CLK1 (in), 25 GND (power), 30 GND (power), 36 TCK (in), 37 GND (power), 38 VCC (power), 46 GND (power), 53 VCC (power), 54 GND (power), 55 GND (power), 56 VCC (power), 63 GND (power), 71 VCC (power), 72 GND (power), 73 TMS (in), 79 GND (power), 84 GND (power), 89 I2/CLK2 (in), 90 VCC (power), 91 GND (power), 92 I3/CLK3 (in), 97 GND (power), 102 GND (power), 108 TDO (out), 109 GND (power), 110 VCC (power), 118 GND (power), 125 VCC (power), 126 GND (power), 127 GND (power), 128 VCC (power), 135 GND (power), 143 VCC (power), 144 GND (power)

## M5LV-128/104-10VI
designator U?
High-Density and High-I/O Complex PLD; Published: 23-Sep-2002; LatestRevisionDate: 13-Apr-2006; LatestRevisionNote: IPC-7351 Footprint Added.; DatasheetVersion: Sep-2000; PackageVersion: pkg_32, Aug-2005; PackageReference: TQFP144; Publisher: Altium Limited; PackageDescription: 144-Pin Thin Quad Flat Pack (TQFP144); Code_JEDEC: MS-026-BFB; ComponentLink1Description: Manufacturer Link; ComponentLink1URL: http://www.latticesemi.com/products/mature/index.cfm; ComponentLink2Description: Datasheet; ComponentLink2URL: http://www.latticesemi.com/lit/docs/datasheets/cpld/mach5.pdf
footprint TQFP144_N (Thin QFP, 144-Leads, Body 20x20mm, Pitch 0.5mm, IPC Medium Density)
footprint TQFP144_L (Thin QFP, 144-Leads, Body 20x20mm, Pitch 0.5mm, IPC High Density)
footprint TQFP144_M (Thin QFP, 144-Leads, Body 20x20mm, Pitch 0.5mm, IPC Low Density)
3D model M5LV-TQFP144 (144-Pin Thin Quad Flat Pack (TQFP144))
part A pins: 2 I/O0 0A14 (io), 3 I/O1 0B13 (io), 4 I/O2 0B12 (io), 5 I/O3 0B11 (io), 6 I/O4 0B10 (io), 8 I/O5 0B8 (io), 9 I/O6 0B7 (io), 10 I/O7 0B6 (io), 11 I/O8 0B5 (io), 13 I/O9 0B4 (io), 14 I/O10 0B3 (io), 15 I/O11 0B2 (io), 16 I/O12 0B1 (io), 21 I/O13 1B1 (io), 22 I/O14 1B2 (io), 23 I/O15 1B3 (io), 24 I/O16 1B4 (io), 26 I/O17 1B5 (io), 27 I/O18 1B6 (io), 28 I/O19 1B7 (io), 29 I/O20 1B8 (io), 31 I/O21 1B10 (io), 32 I/O22 1B11 (io), 33 I/O23 1B12 (io), 34 I/O24 1B13 (io), 35 I/O25 1A14 (io), 39 I/O26 1A13 (io), 40 I/O27 1A12 (io), 41 I/O28 1A11 (io), 42 I/O29 1A10 (io), 43 I/O30 1A8 (io), 44 I/O31 1A7 (io), 45 I/O32 1A6 (io), 47 I/O33 1A5 (io), 48 I/O34 1A4 (io), 49 I/O35 1A3 (io), 50 I/O36 1A2 (io), 51 I/O37 1A1 (io), 52 I/O38 1A0 (io), 57 I/O39 1D0 (io), 58 I/O40 1D1 (io), 59 I/O41 1D2 (io), 60 I/O42 1D3 (io), 61 I/O43 1D4 (io), 62 I/O44 1D5 (io), 64 I/O45 1D6 (io), 65 I/O46 1D7 (io), 66 I/O47 1D8 (io), 67 I/O48 1D10 (io), 68 I/O49 1D11 (io), 69 I/O50 1D12 (io), 70 I/O51 1D13 (io), 74 I/O52 1D14 (io), 75 I/O53 1C13 (io), 76 I/O54 1C12 (io), 77 I/O55 1C11 (io), 78 I/O56 1C10 (io), 80 I/O57 1C8 (io), 81 I/O58 1C7 (io), 82 I/O59 1C6 (io), 83 I/O60 1C5 (io), 85 I/O61 1C4 (io), 86 I/O62 1C3 (io), 87 I/O63 1C2 (io), 88 I/O64 1C1 (io), 93 I/O65 0C1 (io), 94 I/O66 0C2 (io), 95 I/O67 0C3 (io), 96 I/O68 0C4 (io), 98 I/O69 0C5 (io), 99 I/O70 0C6 (io), 100 I/O71 0C7 (io), 101 I/O72 0C8 (io), 103 I/O73 0C10 (io), 104 I/O74 0C11 (io), 105 I/O75 0C12 (io), 106 I/O76 0C13 (io), 107 I/O77 0D14 (io), 111 I/O78 0D13 (io), 112 I/O79 0D12 (io), 113 I/O80 0D11 (io), 114 I/O81 0D10 (io), 115 I/O82 0D8 (io), 116 I/O83 0D7 (io), 117 I/O84 0D6 (io), 119 I/O85 0D5 (io), 120 I/O86 0D4 (io), 121 I/O87 0D3 (io), 122 I/O88 0D2 (io), 123 I/O89 0D1 (io), 124 I/O90 0D0 (io), 129 I/O91 0A0 (io), 130 I/O92 0A1 (io), 131 I/O93 0A2 (io), 132 I/O94 0A3 (io), 133 I/O95 0A4 (io), 134 I/O96 0A5 (io), 136 I/O97 0A6 (io), 137 I/O98 0A7 (io), 138 I/O99 0A8 (io), 139 I/O100 0A10 (io), 140 I/O101 0A11 (io), 141 I/O102 0A12 (io), 142 I/O103 0A13 (io)
part B pins: 1 TDI (in), 7 GND (power), 12 GND (power), 17 I0/CLK0 (in), 18 VCC (power), 19 GND (power), 20 I1/CLK1 (in), 25 GND (power), 30 GND (power), 36 TCK (in), 37 GND (power), 38 VCC (power), 46 GND (power), 53 VCC (power), 54 GND (power), 55 GND (power), 56 VCC (power), 63 GND (power), 71 VCC (power), 72 GND (power), 73 TMS (in), 79 GND (power), 84 GND (power), 89 I2/CLK2 (in), 90 VCC (power), 91 GND (power), 92 I3/CLK3 (in), 97 GND (power), 102 GND (power), 108 TDO (out), 109 GND (power), 110 VCC (power), 118 GND (power), 125 VCC (power), 126 GND (power), 127 GND (power), 128 VCC (power), 135 GND (power), 143 VCC (power), 144 GND (power)

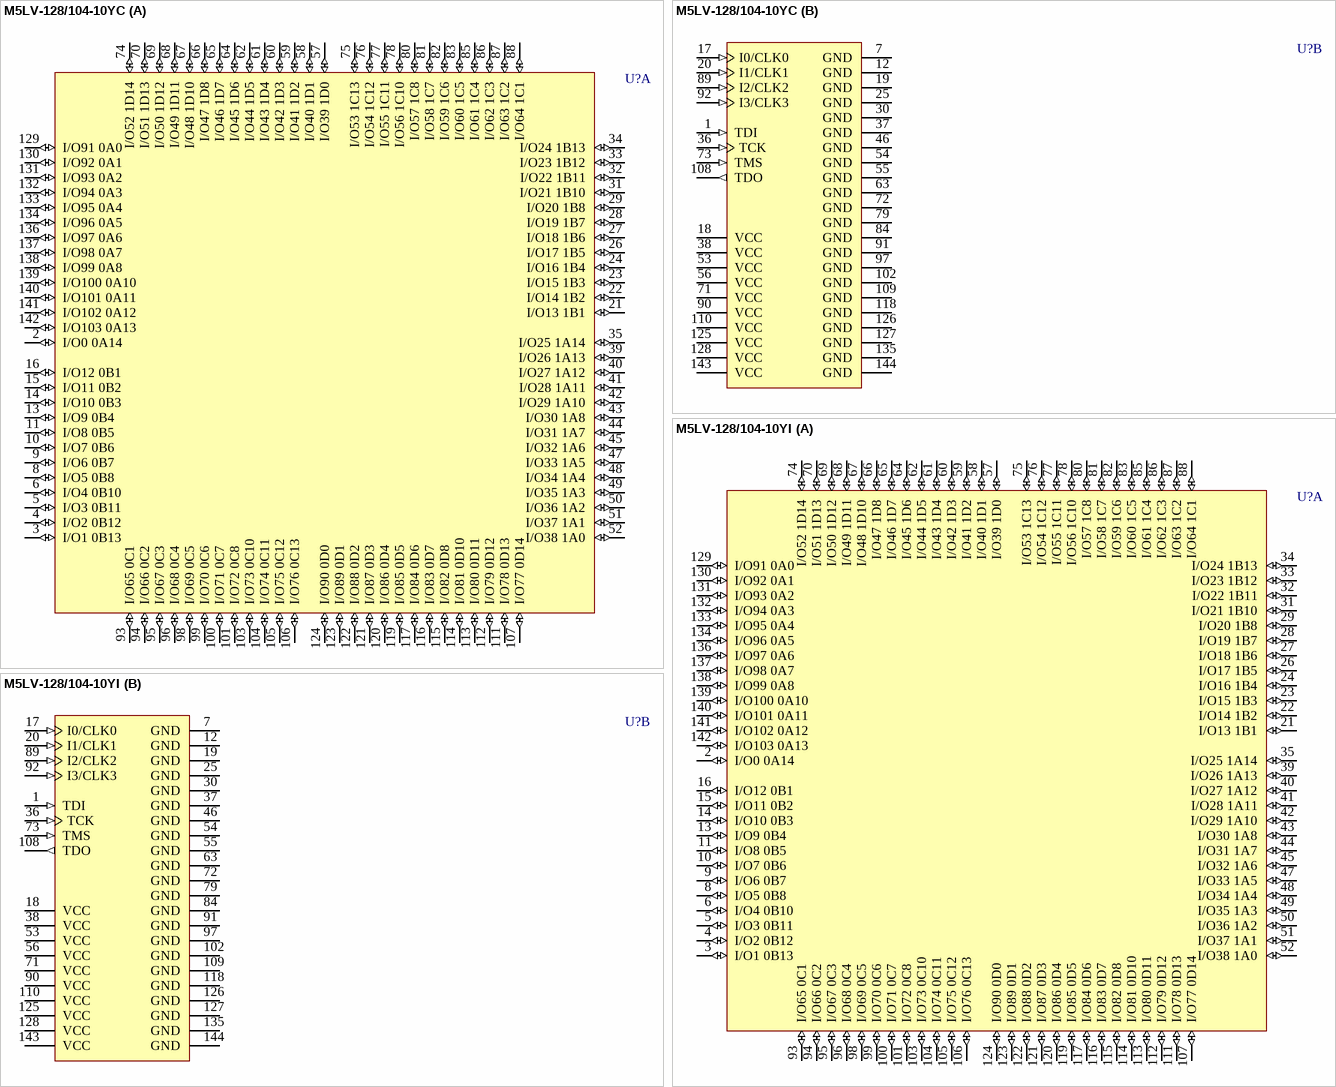
[diagram p165: symbols M5LV-128/104-10YC to M5LV-128/104-10YI]

## M5LV-128/104-10YC
designator U?
High-Density and High-I/O Complex PLD; Published: 23-Sep-2002; LatestRevisionDate: 13-Apr-2006; LatestRevisionNote: IPC-7351 Footprint Added.; DatasheetVersion: Sep-2000; PackageVersion: pkg_32, Aug-2005; PackageReference: PQFP144; Publisher: Altium Limited; PackageDescription: 144-Pin Quad Flat Pack 0.65 mm Pitch; Code_IPC: QFP65P3120X3120-144; ComponentLink1Description: Manufacturer Link; ComponentLink1URL: http://www.latticesemi.com/products/mature/index.cfm; ComponentLink2Description: Datasheet; ComponentLink2URL: http://www.latticesemi.com/lit/docs/datasheets/cpld/mach5.pdf
footprint PQFP144_N (QFP, 144-Leads, Body 28 x 28mm, Pitch 0.65mm, IPC Medium Density)
footprint PQFP144_L (QFP, 144-Leads, Body 28 x 28mm, Pitch 0.65mm, IPC High Density)
footprint PQFP144_M (QFP, 144-Leads, Body 28 x 28mm, Pitch 0.65mm, IPC Low Density)
3D model M5LV-PQFP144 (144-Pin Quad Flat Pack 0.65 mm Pitch)
part A pins: 2 I/O0 0A14 (io), 3 I/O1 0B13 (io), 4 I/O2 0B12 (io), 5 I/O3 0B11 (io), 6 I/O4 0B10 (io), 8 I/O5 0B8 (io), 9 I/O6 0B7 (io), 10 I/O7 0B6 (io), 11 I/O8 0B5 (io), 13 I/O9 0B4 (io), 14 I/O10 0B3 (io), 15 I/O11 0B2 (io), 16 I/O12 0B1 (io), 21 I/O13 1B1 (io), 22 I/O14 1B2 (io), 23 I/O15 1B3 (io), 24 I/O16 1B4 (io), 26 I/O17 1B5 (io), 27 I/O18 1B6 (io), 28 I/O19 1B7 (io), 29 I/O20 1B8 (io), 31 I/O21 1B10 (io), 32 I/O22 1B11 (io), 33 I/O23 1B12 (io), 34 I/O24 1B13 (io), 35 I/O25 1A14 (io), 39 I/O26 1A13 (io), 40 I/O27 1A12 (io), 41 I/O28 1A11 (io), 42 I/O29 1A10 (io), 43 I/O30 1A8 (io), 44 I/O31 1A7 (io), 45 I/O32 1A6 (io), 47 I/O33 1A5 (io), 48 I/O34 1A4 (io), 49 I/O35 1A3 (io), 50 I/O36 1A2 (io), 51 I/O37 1A1 (io), 52 I/O38 1A0 (io), 57 I/O39 1D0 (io), 58 I/O40 1D1 (io), 59 I/O41 1D2 (io), 60 I/O42 1D3 (io), 61 I/O43 1D4 (io), 62 I/O44 1D5 (io), 64 I/O45 1D6 (io), 65 I/O46 1D7 (io), 66 I/O47 1D8 (io), 67 I/O48 1D10 (io), 68 I/O49 1D11 (io), 69 I/O50 1D12 (io), 70 I/O51 1D13 (io), 74 I/O52 1D14 (io), 75 I/O53 1C13 (io), 76 I/O54 1C12 (io), 77 I/O55 1C11 (io), 78 I/O56 1C10 (io), 80 I/O57 1C8 (io), 81 I/O58 1C7 (io), 82 I/O59 1C6 (io), 83 I/O60 1C5 (io), 85 I/O61 1C4 (io), 86 I/O62 1C3 (io), 87 I/O63 1C2 (io), 88 I/O64 1C1 (io), 93 I/O65 0C1 (io), 94 I/O66 0C2 (io), 95 I/O67 0C3 (io), 96 I/O68 0C4 (io), 98 I/O69 0C5 (io), 99 I/O70 0C6 (io), 100 I/O71 0C7 (io), 101 I/O72 0C8 (io), 103 I/O73 0C10 (io), 104 I/O74 0C11 (io), 105 I/O75 0C12 (io), 106 I/O76 0C13 (io), 107 I/O77 0D14 (io), 111 I/O78 0D13 (io), 112 I/O79 0D12 (io), 113 I/O80 0D11 (io), 114 I/O81 0D10 (io), 115 I/O82 0D8 (io), 116 I/O83 0D7 (io), 117 I/O84 0D6 (io), 119 I/O85 0D5 (io), 120 I/O86 0D4 (io), 121 I/O87 0D3 (io), 122 I/O88 0D2 (io), 123 I/O89 0D1 (io), 124 I/O90 0D0 (io), 129 I/O91 0A0 (io), 130 I/O92 0A1 (io), 131 I/O93 0A2 (io), 132 I/O94 0A3 (io), 133 I/O95 0A4 (io), 134 I/O96 0A5 (io), 136 I/O97 0A6 (io), 137 I/O98 0A7 (io), 138 I/O99 0A8 (io), 139 I/O100 0A10 (io), 140 I/O101 0A11 (io), 141 I/O102 0A12 (io), 142 I/O103 0A13 (io)
part B pins: 1 TDI (in), 7 GND (power), 12 GND (power), 17 I0/CLK0 (in), 18 VCC (power), 19 GND (power), 20 I1/CLK1 (in), 25 GND (power), 30 GND (power), 36 TCK (in), 37 GND (power), 38 VCC (power), 46 GND (power), 53 VCC (power), 54 GND (power), 55 GND (power), 56 VCC (power), 63 GND (power), 71 VCC (power), 72 GND (power), 73 TMS (in), 79 GND (power), 84 GND (power), 89 I2/CLK2 (in), 90 VCC (power), 91 GND (power), 92 I3/CLK3 (in), 97 GND (power), 102 GND (power), 108 TDO (out), 109 GND (power), 110 VCC (power), 118 GND (power), 125 VCC (power), 126 GND (power), 127 GND (power), 128 VCC (power), 135 GND (power), 143 VCC (power), 144 GND (power)

## M5LV-128/104-10YI
designator U?
High-Density and High-I/O Complex PLD; Published: 23-Sep-2002; LatestRevisionDate: 13-Apr-2006; LatestRevisionNote: IPC-7351 Footprint Added.; DatasheetVersion: Sep-2000; PackageVersion: pkg_32, Aug-2005; PackageReference: PQFP144; Publisher: Altium Limited; PackageDescription: 144-Pin Quad Flat Pack 0.65 mm Pitch; Code_IPC: QFP65P3120X3120-144; ComponentLink1Description: Manufacturer Link; ComponentLink1URL: http://www.latticesemi.com/products/mature/index.cfm; ComponentLink2Description: Datasheet; ComponentLink2URL: http://www.latticesemi.com/lit/docs/datasheets/cpld/mach5.pdf
footprint PQFP144_N (QFP, 144-Leads, Body 28 x 28mm, Pitch 0.65mm, IPC Medium Density)
footprint PQFP144_L (QFP, 144-Leads, Body 28 x 28mm, Pitch 0.65mm, IPC High Density)
footprint PQFP144_M (QFP, 144-Leads, Body 28 x 28mm, Pitch 0.65mm, IPC Low Density)
3D model M5LV-PQFP144 (144-Pin Quad Flat Pack 0.65 mm Pitch)
part A pins: 2 I/O0 0A14 (io), 3 I/O1 0B13 (io), 4 I/O2 0B12 (io), 5 I/O3 0B11 (io), 6 I/O4 0B10 (io), 8 I/O5 0B8 (io), 9 I/O6 0B7 (io), 10 I/O7 0B6 (io), 11 I/O8 0B5 (io), 13 I/O9 0B4 (io), 14 I/O10 0B3 (io), 15 I/O11 0B2 (io), 16 I/O12 0B1 (io), 21 I/O13 1B1 (io), 22 I/O14 1B2 (io), 23 I/O15 1B3 (io), 24 I/O16 1B4 (io), 26 I/O17 1B5 (io), 27 I/O18 1B6 (io), 28 I/O19 1B7 (io), 29 I/O20 1B8 (io), 31 I/O21 1B10 (io), 32 I/O22 1B11 (io), 33 I/O23 1B12 (io), 34 I/O24 1B13 (io), 35 I/O25 1A14 (io), 39 I/O26 1A13 (io), 40 I/O27 1A12 (io), 41 I/O28 1A11 (io), 42 I/O29 1A10 (io), 43 I/O30 1A8 (io), 44 I/O31 1A7 (io), 45 I/O32 1A6 (io), 47 I/O33 1A5 (io), 48 I/O34 1A4 (io), 49 I/O35 1A3 (io), 50 I/O36 1A2 (io), 51 I/O37 1A1 (io), 52 I/O38 1A0 (io), 57 I/O39 1D0 (io), 58 I/O40 1D1 (io), 59 I/O41 1D2 (io), 60 I/O42 1D3 (io), 61 I/O43 1D4 (io), 62 I/O44 1D5 (io), 64 I/O45 1D6 (io), 65 I/O46 1D7 (io), 66 I/O47 1D8 (io), 67 I/O48 1D10 (io), 68 I/O49 1D11 (io), 69 I/O50 1D12 (io), 70 I/O51 1D13 (io), 74 I/O52 1D14 (io), 75 I/O53 1C13 (io), 76 I/O54 1C12 (io), 77 I/O55 1C11 (io), 78 I/O56 1C10 (io), 80 I/O57 1C8 (io), 81 I/O58 1C7 (io), 82 I/O59 1C6 (io), 83 I/O60 1C5 (io), 85 I/O61 1C4 (io), 86 I/O62 1C3 (io), 87 I/O63 1C2 (io), 88 I/O64 1C1 (io), 93 I/O65 0C1 (io), 94 I/O66 0C2 (io), 95 I/O67 0C3 (io), 96 I/O68 0C4 (io), 98 I/O69 0C5 (io), 99 I/O70 0C6 (io), 100 I/O71 0C7 (io), 101 I/O72 0C8 (io), 103 I/O73 0C10 (io), 104 I/O74 0C11 (io), 105 I/O75 0C12 (io), 106 I/O76 0C13 (io), 107 I/O77 0D14 (io), 111 I/O78 0D13 (io), 112 I/O79 0D12 (io), 113 I/O80 0D11 (io), 114 I/O81 0D10 (io), 115 I/O82 0D8 (io), 116 I/O83 0D7 (io), 117 I/O84 0D6 (io), 119 I/O85 0D5 (io), 120 I/O86 0D4 (io), 121 I/O87 0D3 (io), 122 I/O88 0D2 (io), 123 I/O89 0D1 (io), 124 I/O90 0D0 (io), 129 I/O91 0A0 (io), 130 I/O92 0A1 (io), 131 I/O93 0A2 (io), 132 I/O94 0A3 (io), 133 I/O95 0A4 (io), 134 I/O96 0A5 (io), 136 I/O97 0A6 (io), 137 I/O98 0A7 (io), 138 I/O99 0A8 (io), 139 I/O100 0A10 (io), 140 I/O101 0A11 (io), 141 I/O102 0A12 (io), 142 I/O103 0A13 (io)
part B pins: 1 TDI (in), 7 GND (power), 12 GND (power), 17 I0/CLK0 (in), 18 VCC (power), 19 GND (power), 20 I1/CLK1 (in), 25 GND (power), 30 GND (power), 36 TCK (in), 37 GND (power), 38 VCC (power), 46 GND (power), 53 VCC (power), 54 GND (power), 55 GND (power), 56 VCC (power), 63 GND (power), 71 VCC (power), 72 GND (power), 73 TMS (in), 79 GND (power), 84 GND (power), 89 I2/CLK2 (in), 90 VCC (power), 91 GND (power), 92 I3/CLK3 (in), 97 GND (power), 102 GND (power), 108 TDO (out), 109 GND (power), 110 VCC (power), 118 GND (power), 125 VCC (power), 126 GND (power), 127 GND (power), 128 VCC (power), 135 GND (power), 143 VCC (power), 144 GND (power)

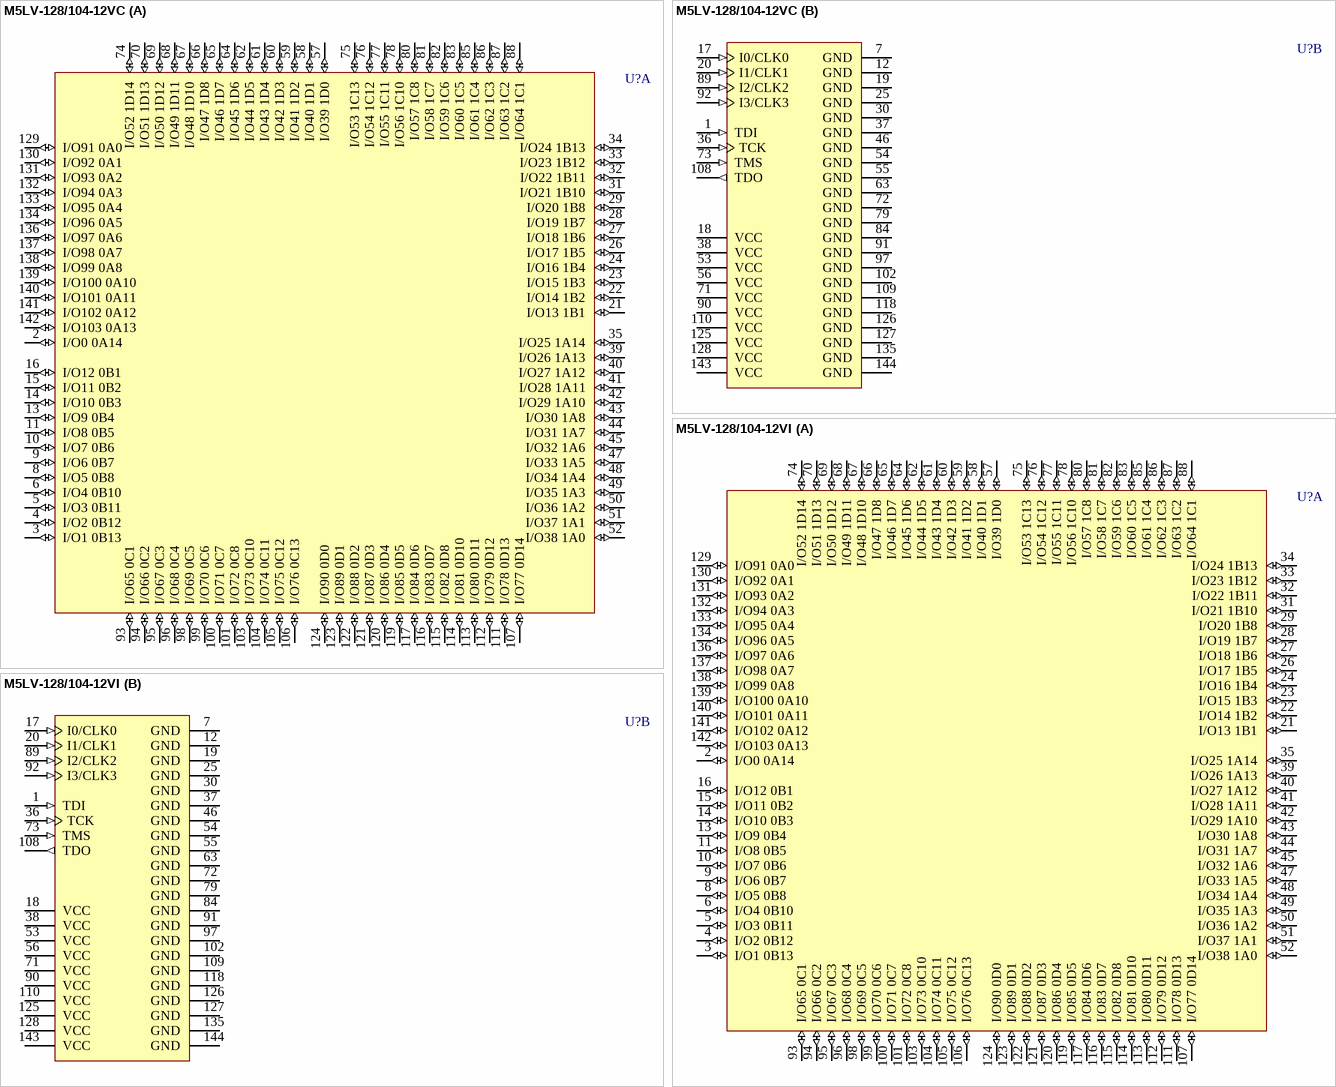
[diagram p166: symbols M5LV-128/104-12VC to M5LV-128/104-12VI]

## M5LV-128/104-12VC
designator U?
High-Density and High-I/O Complex PLD; Published: 23-Sep-2002; LatestRevisionDate: 13-Apr-2006; LatestRevisionNote: IPC-7351 Footprint Added.; DatasheetVersion: Sep-2000; PackageVersion: pkg_32, Aug-2005; PackageReference: TQFP144; Publisher: Altium Limited; PackageDescription: 144-Pin Thin Quad Flat Pack (TQFP144); Code_JEDEC: MS-026-BFB; ComponentLink1Description: Manufacturer Link; ComponentLink1URL: http://www.latticesemi.com/products/mature/index.cfm; ComponentLink2Description: Datasheet; ComponentLink2URL: http://www.latticesemi.com/lit/docs/datasheets/cpld/mach5.pdf
footprint TQFP144_N (Thin QFP, 144-Leads, Body 20x20mm, Pitch 0.5mm, IPC Medium Density)
footprint TQFP144_L (Thin QFP, 144-Leads, Body 20x20mm, Pitch 0.5mm, IPC High Density)
footprint TQFP144_M (Thin QFP, 144-Leads, Body 20x20mm, Pitch 0.5mm, IPC Low Density)
3D model M5LV-TQFP144 (144-Pin Thin Quad Flat Pack (TQFP144))
part A pins: 2 I/O0 0A14 (io), 3 I/O1 0B13 (io), 4 I/O2 0B12 (io), 5 I/O3 0B11 (io), 6 I/O4 0B10 (io), 8 I/O5 0B8 (io), 9 I/O6 0B7 (io), 10 I/O7 0B6 (io), 11 I/O8 0B5 (io), 13 I/O9 0B4 (io), 14 I/O10 0B3 (io), 15 I/O11 0B2 (io), 16 I/O12 0B1 (io), 21 I/O13 1B1 (io), 22 I/O14 1B2 (io), 23 I/O15 1B3 (io), 24 I/O16 1B4 (io), 26 I/O17 1B5 (io), 27 I/O18 1B6 (io), 28 I/O19 1B7 (io), 29 I/O20 1B8 (io), 31 I/O21 1B10 (io), 32 I/O22 1B11 (io), 33 I/O23 1B12 (io), 34 I/O24 1B13 (io), 35 I/O25 1A14 (io), 39 I/O26 1A13 (io), 40 I/O27 1A12 (io), 41 I/O28 1A11 (io), 42 I/O29 1A10 (io), 43 I/O30 1A8 (io), 44 I/O31 1A7 (io), 45 I/O32 1A6 (io), 47 I/O33 1A5 (io), 48 I/O34 1A4 (io), 49 I/O35 1A3 (io), 50 I/O36 1A2 (io), 51 I/O37 1A1 (io), 52 I/O38 1A0 (io), 57 I/O39 1D0 (io), 58 I/O40 1D1 (io), 59 I/O41 1D2 (io), 60 I/O42 1D3 (io), 61 I/O43 1D4 (io), 62 I/O44 1D5 (io), 64 I/O45 1D6 (io), 65 I/O46 1D7 (io), 66 I/O47 1D8 (io), 67 I/O48 1D10 (io), 68 I/O49 1D11 (io), 69 I/O50 1D12 (io), 70 I/O51 1D13 (io), 74 I/O52 1D14 (io), 75 I/O53 1C13 (io), 76 I/O54 1C12 (io), 77 I/O55 1C11 (io), 78 I/O56 1C10 (io), 80 I/O57 1C8 (io), 81 I/O58 1C7 (io), 82 I/O59 1C6 (io), 83 I/O60 1C5 (io), 85 I/O61 1C4 (io), 86 I/O62 1C3 (io), 87 I/O63 1C2 (io), 88 I/O64 1C1 (io), 93 I/O65 0C1 (io), 94 I/O66 0C2 (io), 95 I/O67 0C3 (io), 96 I/O68 0C4 (io), 98 I/O69 0C5 (io), 99 I/O70 0C6 (io), 100 I/O71 0C7 (io), 101 I/O72 0C8 (io), 103 I/O73 0C10 (io), 104 I/O74 0C11 (io), 105 I/O75 0C12 (io), 106 I/O76 0C13 (io), 107 I/O77 0D14 (io), 111 I/O78 0D13 (io), 112 I/O79 0D12 (io), 113 I/O80 0D11 (io), 114 I/O81 0D10 (io), 115 I/O82 0D8 (io), 116 I/O83 0D7 (io), 117 I/O84 0D6 (io), 119 I/O85 0D5 (io), 120 I/O86 0D4 (io), 121 I/O87 0D3 (io), 122 I/O88 0D2 (io), 123 I/O89 0D1 (io), 124 I/O90 0D0 (io), 129 I/O91 0A0 (io), 130 I/O92 0A1 (io), 131 I/O93 0A2 (io), 132 I/O94 0A3 (io), 133 I/O95 0A4 (io), 134 I/O96 0A5 (io), 136 I/O97 0A6 (io), 137 I/O98 0A7 (io), 138 I/O99 0A8 (io), 139 I/O100 0A10 (io), 140 I/O101 0A11 (io), 141 I/O102 0A12 (io), 142 I/O103 0A13 (io)
part B pins: 1 TDI (in), 7 GND (power), 12 GND (power), 17 I0/CLK0 (in), 18 VCC (power), 19 GND (power), 20 I1/CLK1 (in), 25 GND (power), 30 GND (power), 36 TCK (in), 37 GND (power), 38 VCC (power), 46 GND (power), 53 VCC (power), 54 GND (power), 55 GND (power), 56 VCC (power), 63 GND (power), 71 VCC (power), 72 GND (power), 73 TMS (in), 79 GND (power), 84 GND (power), 89 I2/CLK2 (in), 90 VCC (power), 91 GND (power), 92 I3/CLK3 (in), 97 GND (power), 102 GND (power), 108 TDO (out), 109 GND (power), 110 VCC (power), 118 GND (power), 125 VCC (power), 126 GND (power), 127 GND (power), 128 VCC (power), 135 GND (power), 143 VCC (power), 144 GND (power)

## M5LV-128/104-12VI
designator U?
High-Density and High-I/O Complex PLD; Published: 23-Sep-2002; LatestRevisionDate: 13-Apr-2006; LatestRevisionNote: IPC-7351 Footprint Added.; DatasheetVersion: Sep-2000; PackageVersion: pkg_32, Aug-2005; PackageReference: TQFP144; Publisher: Altium Limited; PackageDescription: 144-Pin Thin Quad Flat Pack (TQFP144); Code_JEDEC: MS-026-BFB; ComponentLink1Description: Manufacturer Link; ComponentLink1URL: http://www.latticesemi.com/products/mature/index.cfm; ComponentLink2Description: Datasheet; ComponentLink2URL: http://www.latticesemi.com/lit/docs/datasheets/cpld/mach5.pdf
footprint TQFP144_N (Thin QFP, 144-Leads, Body 20x20mm, Pitch 0.5mm, IPC Medium Density)
footprint TQFP144_L (Thin QFP, 144-Leads, Body 20x20mm, Pitch 0.5mm, IPC High Density)
footprint TQFP144_M (Thin QFP, 144-Leads, Body 20x20mm, Pitch 0.5mm, IPC Low Density)
3D model M5LV-TQFP144 (144-Pin Thin Quad Flat Pack (TQFP144))
part A pins: 2 I/O0 0A14 (io), 3 I/O1 0B13 (io), 4 I/O2 0B12 (io), 5 I/O3 0B11 (io), 6 I/O4 0B10 (io), 8 I/O5 0B8 (io), 9 I/O6 0B7 (io), 10 I/O7 0B6 (io), 11 I/O8 0B5 (io), 13 I/O9 0B4 (io), 14 I/O10 0B3 (io), 15 I/O11 0B2 (io), 16 I/O12 0B1 (io), 21 I/O13 1B1 (io), 22 I/O14 1B2 (io), 23 I/O15 1B3 (io), 24 I/O16 1B4 (io), 26 I/O17 1B5 (io), 27 I/O18 1B6 (io), 28 I/O19 1B7 (io), 29 I/O20 1B8 (io), 31 I/O21 1B10 (io), 32 I/O22 1B11 (io), 33 I/O23 1B12 (io), 34 I/O24 1B13 (io), 35 I/O25 1A14 (io), 39 I/O26 1A13 (io), 40 I/O27 1A12 (io), 41 I/O28 1A11 (io), 42 I/O29 1A10 (io), 43 I/O30 1A8 (io), 44 I/O31 1A7 (io), 45 I/O32 1A6 (io), 47 I/O33 1A5 (io), 48 I/O34 1A4 (io), 49 I/O35 1A3 (io), 50 I/O36 1A2 (io), 51 I/O37 1A1 (io), 52 I/O38 1A0 (io), 57 I/O39 1D0 (io), 58 I/O40 1D1 (io), 59 I/O41 1D2 (io), 60 I/O42 1D3 (io), 61 I/O43 1D4 (io), 62 I/O44 1D5 (io), 64 I/O45 1D6 (io), 65 I/O46 1D7 (io), 66 I/O47 1D8 (io), 67 I/O48 1D10 (io), 68 I/O49 1D11 (io), 69 I/O50 1D12 (io), 70 I/O51 1D13 (io), 74 I/O52 1D14 (io), 75 I/O53 1C13 (io), 76 I/O54 1C12 (io), 77 I/O55 1C11 (io), 78 I/O56 1C10 (io), 80 I/O57 1C8 (io), 81 I/O58 1C7 (io), 82 I/O59 1C6 (io), 83 I/O60 1C5 (io), 85 I/O61 1C4 (io), 86 I/O62 1C3 (io), 87 I/O63 1C2 (io), 88 I/O64 1C1 (io), 93 I/O65 0C1 (io), 94 I/O66 0C2 (io), 95 I/O67 0C3 (io), 96 I/O68 0C4 (io), 98 I/O69 0C5 (io), 99 I/O70 0C6 (io), 100 I/O71 0C7 (io), 101 I/O72 0C8 (io), 103 I/O73 0C10 (io), 104 I/O74 0C11 (io), 105 I/O75 0C12 (io), 106 I/O76 0C13 (io), 107 I/O77 0D14 (io), 111 I/O78 0D13 (io), 112 I/O79 0D12 (io), 113 I/O80 0D11 (io), 114 I/O81 0D10 (io), 115 I/O82 0D8 (io), 116 I/O83 0D7 (io), 117 I/O84 0D6 (io), 119 I/O85 0D5 (io), 120 I/O86 0D4 (io), 121 I/O87 0D3 (io), 122 I/O88 0D2 (io), 123 I/O89 0D1 (io), 124 I/O90 0D0 (io), 129 I/O91 0A0 (io), 130 I/O92 0A1 (io), 131 I/O93 0A2 (io), 132 I/O94 0A3 (io), 133 I/O95 0A4 (io), 134 I/O96 0A5 (io), 136 I/O97 0A6 (io), 137 I/O98 0A7 (io), 138 I/O99 0A8 (io), 139 I/O100 0A10 (io), 140 I/O101 0A11 (io), 141 I/O102 0A12 (io), 142 I/O103 0A13 (io)
part B pins: 1 TDI (in), 7 GND (power), 12 GND (power), 17 I0/CLK0 (in), 18 VCC (power), 19 GND (power), 20 I1/CLK1 (in), 25 GND (power), 30 GND (power), 36 TCK (in), 37 GND (power), 38 VCC (power), 46 GND (power), 53 VCC (power), 54 GND (power), 55 GND (power), 56 VCC (power), 63 GND (power), 71 VCC (power), 72 GND (power), 73 TMS (in), 79 GND (power), 84 GND (power), 89 I2/CLK2 (in), 90 VCC (power), 91 GND (power), 92 I3/CLK3 (in), 97 GND (power), 102 GND (power), 108 TDO (out), 109 GND (power), 110 VCC (power), 118 GND (power), 125 VCC (power), 126 GND (power), 127 GND (power), 128 VCC (power), 135 GND (power), 143 VCC (power), 144 GND (power)

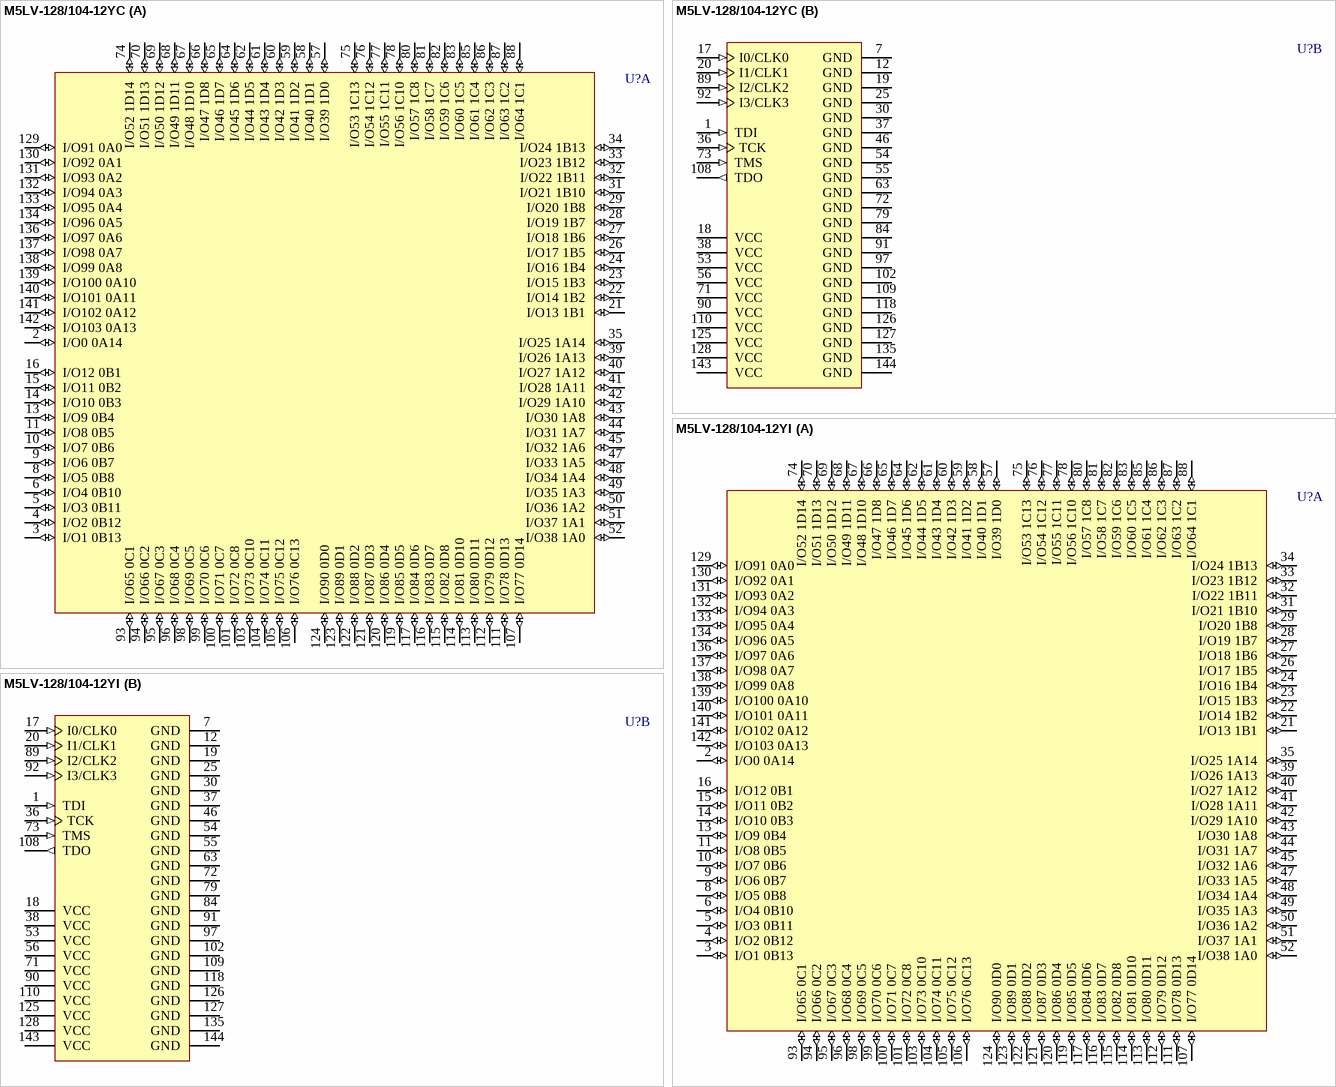
[diagram p167: symbols M5LV-128/104-12YC to M5LV-128/104-12YI]

## M5LV-128/104-12YC
designator U?
High-Density and High-I/O Complex PLD; Published: 23-Sep-2002; LatestRevisionDate: 13-Apr-2006; LatestRevisionNote: IPC-7351 Footprint Added.; DatasheetVersion: Sep-2000; PackageVersion: pkg_32, Aug-2005; PackageReference: PQFP144; Publisher: Altium Limited; PackageDescription: 144-Pin Quad Flat Pack 0.65 mm Pitch; Code_IPC: QFP65P3120X3120-144; ComponentLink1Description: Manufacturer Link; ComponentLink1URL: http://www.latticesemi.com/products/mature/index.cfm; ComponentLink2Description: Datasheet; ComponentLink2URL: http://www.latticesemi.com/lit/docs/datasheets/cpld/mach5.pdf
footprint PQFP144_N (QFP, 144-Leads, Body 28 x 28mm, Pitch 0.65mm, IPC Medium Density)
footprint PQFP144_L (QFP, 144-Leads, Body 28 x 28mm, Pitch 0.65mm, IPC High Density)
footprint PQFP144_M (QFP, 144-Leads, Body 28 x 28mm, Pitch 0.65mm, IPC Low Density)
3D model M5LV-PQFP144 (144-Pin Quad Flat Pack 0.65 mm Pitch)
part A pins: 2 I/O0 0A14 (io), 3 I/O1 0B13 (io), 4 I/O2 0B12 (io), 5 I/O3 0B11 (io), 6 I/O4 0B10 (io), 8 I/O5 0B8 (io), 9 I/O6 0B7 (io), 10 I/O7 0B6 (io), 11 I/O8 0B5 (io), 13 I/O9 0B4 (io), 14 I/O10 0B3 (io), 15 I/O11 0B2 (io), 16 I/O12 0B1 (io), 21 I/O13 1B1 (io), 22 I/O14 1B2 (io), 23 I/O15 1B3 (io), 24 I/O16 1B4 (io), 26 I/O17 1B5 (io), 27 I/O18 1B6 (io), 28 I/O19 1B7 (io), 29 I/O20 1B8 (io), 31 I/O21 1B10 (io), 32 I/O22 1B11 (io), 33 I/O23 1B12 (io), 34 I/O24 1B13 (io), 35 I/O25 1A14 (io), 39 I/O26 1A13 (io), 40 I/O27 1A12 (io), 41 I/O28 1A11 (io), 42 I/O29 1A10 (io), 43 I/O30 1A8 (io), 44 I/O31 1A7 (io), 45 I/O32 1A6 (io), 47 I/O33 1A5 (io), 48 I/O34 1A4 (io), 49 I/O35 1A3 (io), 50 I/O36 1A2 (io), 51 I/O37 1A1 (io), 52 I/O38 1A0 (io), 57 I/O39 1D0 (io), 58 I/O40 1D1 (io), 59 I/O41 1D2 (io), 60 I/O42 1D3 (io), 61 I/O43 1D4 (io), 62 I/O44 1D5 (io), 64 I/O45 1D6 (io), 65 I/O46 1D7 (io), 66 I/O47 1D8 (io), 67 I/O48 1D10 (io), 68 I/O49 1D11 (io), 69 I/O50 1D12 (io), 70 I/O51 1D13 (io), 74 I/O52 1D14 (io), 75 I/O53 1C13 (io), 76 I/O54 1C12 (io), 77 I/O55 1C11 (io), 78 I/O56 1C10 (io), 80 I/O57 1C8 (io), 81 I/O58 1C7 (io), 82 I/O59 1C6 (io), 83 I/O60 1C5 (io), 85 I/O61 1C4 (io), 86 I/O62 1C3 (io), 87 I/O63 1C2 (io), 88 I/O64 1C1 (io), 93 I/O65 0C1 (io), 94 I/O66 0C2 (io), 95 I/O67 0C3 (io), 96 I/O68 0C4 (io), 98 I/O69 0C5 (io), 99 I/O70 0C6 (io), 100 I/O71 0C7 (io), 101 I/O72 0C8 (io), 103 I/O73 0C10 (io), 104 I/O74 0C11 (io), 105 I/O75 0C12 (io), 106 I/O76 0C13 (io), 107 I/O77 0D14 (io), 111 I/O78 0D13 (io), 112 I/O79 0D12 (io), 113 I/O80 0D11 (io), 114 I/O81 0D10 (io), 115 I/O82 0D8 (io), 116 I/O83 0D7 (io), 117 I/O84 0D6 (io), 119 I/O85 0D5 (io), 120 I/O86 0D4 (io), 121 I/O87 0D3 (io), 122 I/O88 0D2 (io), 123 I/O89 0D1 (io), 124 I/O90 0D0 (io), 129 I/O91 0A0 (io), 130 I/O92 0A1 (io), 131 I/O93 0A2 (io), 132 I/O94 0A3 (io), 133 I/O95 0A4 (io), 134 I/O96 0A5 (io), 136 I/O97 0A6 (io), 137 I/O98 0A7 (io), 138 I/O99 0A8 (io), 139 I/O100 0A10 (io), 140 I/O101 0A11 (io), 141 I/O102 0A12 (io), 142 I/O103 0A13 (io)
part B pins: 1 TDI (in), 7 GND (power), 12 GND (power), 17 I0/CLK0 (in), 18 VCC (power), 19 GND (power), 20 I1/CLK1 (in), 25 GND (power), 30 GND (power), 36 TCK (in), 37 GND (power), 38 VCC (power), 46 GND (power), 53 VCC (power), 54 GND (power), 55 GND (power), 56 VCC (power), 63 GND (power), 71 VCC (power), 72 GND (power), 73 TMS (in), 79 GND (power), 84 GND (power), 89 I2/CLK2 (in), 90 VCC (power), 91 GND (power), 92 I3/CLK3 (in), 97 GND (power), 102 GND (power), 108 TDO (out), 109 GND (power), 110 VCC (power), 118 GND (power), 125 VCC (power), 126 GND (power), 127 GND (power), 128 VCC (power), 135 GND (power), 143 VCC (power), 144 GND (power)